# Altium schematic symbol library SparkFun-DigitalIC.SCHLIB: 190 symbols (part 1 of 2)
Pins are listed as number, name and electrical type; pins without a type are passive.

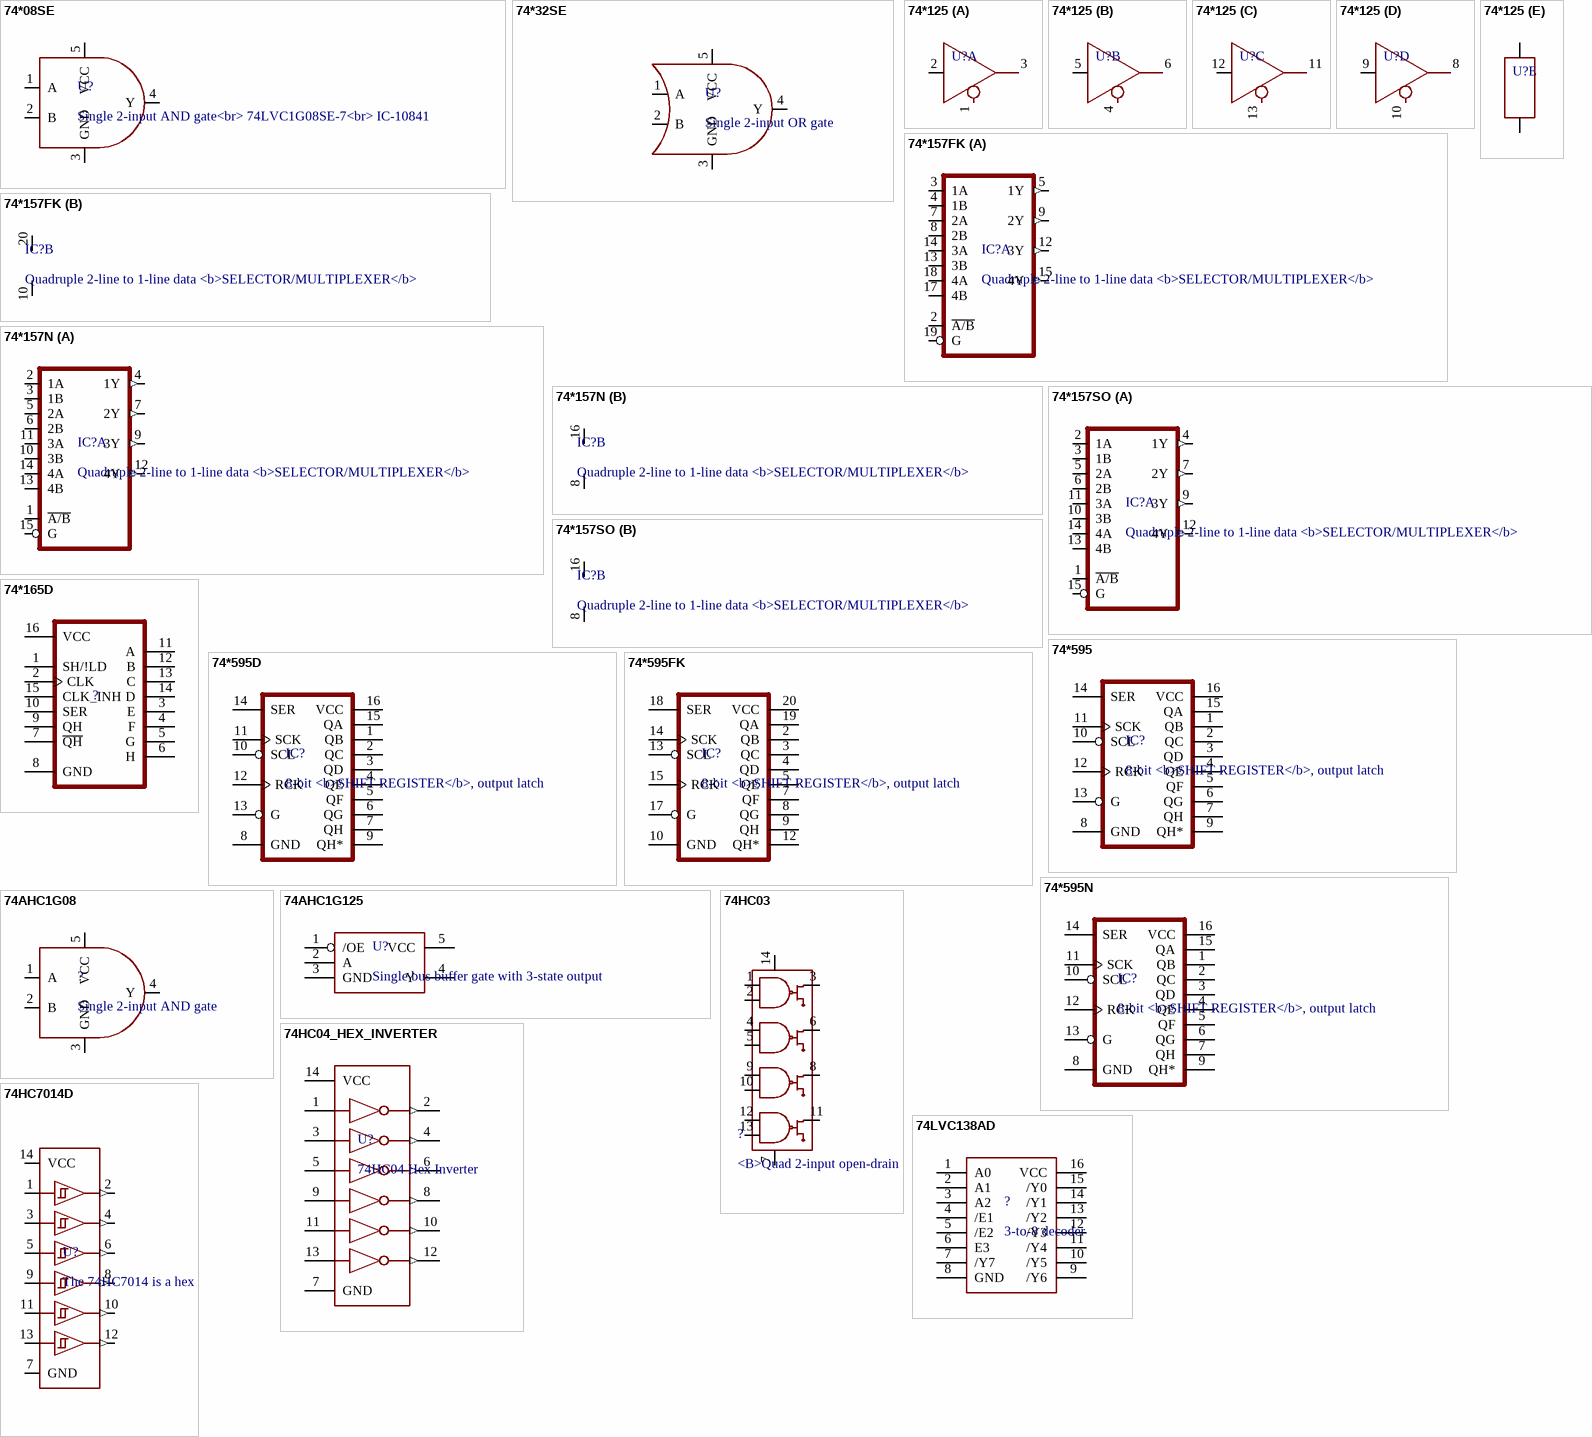
[diagram p0: symbols 74*08SE to 74LVC138AD]

## 74*08SE
designator U?, comment Single 2-input AND gate<br> / 74LVC1G08SE-7<br> / IC-10841
PROD_ID: IC-10841
footprint SOT353
pins: 1 A, 2 B, 3 GND, 4 Y, 5 VCC

## 74*32SE
designator U?, comment Single 2-input OR gate
PROD_ID: IC-10842
footprint SOT353
pins: 1 A, 2 B, 3 GND, 4 Y, 5 VCC

## 74*125
designator U?
PROD_ID: IC-08880
footprint SO14
part A pins: 1 ~{EN}, 2 D, 3 Q
part B pins: 4 ~{EN}, 5 D, 6 Q
part C pins: 11 Q, 12 D, 13 ~{EN}
part D pins: 8 Q, 9 D, 10 ~{EN}
part E pins: 7 P$V-, 14 P$V+

## 74*157FK
designator IC?, comment Quadruple 2-line to 1-line data <b>SELECTOR/MULTIPLEXER</b>
footprint LCC20
part A pins: 2 ~{A/B}, 3 1A, 4 1B, 5 1Y (out), 7 2A, 8 2B, 9 2Y (out), 12 3Y (out), 13 3B, 14 3A, 15 4Y (out), 17 4B, 18 4A, 19 G
part B pins: 10 GND (power), 20 VCC (power)

## 74*157N
designator IC?, comment Quadruple 2-line to 1-line data <b>SELECTOR/MULTIPLEXER</b>
footprint DIL16
part A pins: 1 ~{A/B}, 2 1A, 3 1B, 4 1Y (out), 5 2A, 6 2B, 7 2Y (out), 9 3Y (out), 10 3B, 11 3A, 12 4Y (out), 13 4B, 14 4A, 15 G
part B pins: 8 GND (power), 16 VCC (power)

## 74*157SO
designator IC?, comment Quadruple 2-line to 1-line data <b>SELECTOR/MULTIPLEXER</b>
footprint SO016
part A pins: 1 ~{A/B}, 2 1A, 3 1B, 4 1Y (out), 5 2A, 6 2B, 7 2Y (out), 9 3Y (out), 10 3B, 11 3A, 12 4Y (out), 13 4B, 14 4A, 15 G
part B pins: 8 GND (power), 16 VCC (power)

## 74*165D
designator ?
footprint SO16
pins: 1 SH/!LD, 2 CLK, 3 E (hiz), 4 F (hiz), 5 G (hiz), 6 H (hiz), 7 ~{QH}, 8 GND (power), 9 QH (hiz), 10 SER, 11 A (hiz), 12 B (hiz), 13 C (hiz), 14 D (hiz), 15 CLK_INH, 16 VCC (power)

## 74*595
designator IC?, comment 8-bit <b>SHIFT REGISTER</b>, output latch
footprint TSSOP16
pins: 1 QB (hiz), 2 QC (hiz), 3 QD (hiz), 4 QE (hiz), 5 QF (hiz), 6 QG (hiz), 7 QH (hiz), 8 GND (power), 9 QH* (hiz), 10 SCL, 11 SCK, 12 RCK, 13 G, 14 SER, 15 QA (hiz), 16 VCC (power)

## 74*595D
designator IC?, comment 8-bit <b>SHIFT REGISTER</b>, output latch
PROD_ID: IC-07875
footprint SO16
pins: 1 QB (hiz), 2 QC (hiz), 3 QD (hiz), 4 QE (hiz), 5 QF (hiz), 6 QG (hiz), 7 QH (hiz), 8 GND (power), 9 QH* (hiz), 10 SCL, 11 SCK, 12 RCK, 13 G, 14 SER, 15 QA (hiz), 16 VCC (power)

## 74*595FK
designator IC?, comment 8-bit <b>SHIFT REGISTER</b>, output latch
footprint LCC20
pins: 2 QB (hiz), 3 QC (hiz), 4 QD (hiz), 5 QE (hiz), 7 QF (hiz), 8 QG (hiz), 9 QH (hiz), 10 GND (power), 12 QH* (hiz), 13 SCL, 14 SCK, 15 RCK, 17 G, 18 SER, 19 QA (hiz), 20 VCC (power)

## 74*595N
designator IC?, comment 8-bit <b>SHIFT REGISTER</b>, output latch
footprint DIL16
pins: 1 QB (hiz), 2 QC (hiz), 3 QD (hiz), 4 QE (hiz), 5 QF (hiz), 6 QG (hiz), 7 QH (hiz), 8 GND (power), 9 QH* (hiz), 10 SCL, 11 SCK, 12 RCK, 13 G, 14 SER, 15 QA (hiz), 16 VCC (power)

## 74AHC1G08
designator ?, comment Single 2-input AND gate
PROD_ID: IC-10841
footprint SOT353
pins: 1 A, 2 B, 3 GND, 4 Y, 5 VCC

## 74AHC1G125
designator U?, comment Single bus buffer gate with 3-state output
PROD_ID: IC-11920
footprint SOT23-5
pins: 1 /OE, 2 A, 3 GND, 4 Y, 5 VCC

## 74HC03
designator ?, comment <B>Quad 2-input open-drain NAND</B><br> / 2-5V operating voltage<br> / Some part numbers may include a clamping diode from OD output to VCC; check datasheet for specific part.<br> / We use an NXP part which does NOT have a clamping diode.
footprint TSSOP14
pins: 1 A1, 2 B1, 3 Y1, 4 A2, 5 B2, 6 Y2, 7 VSS, 8 Y3, 9 A3, 10 B3, 11 Y4, 12 A4, 13 B4, 14 VCC

## 74HC04_HEX_INVERTER
designator U?, comment 74HC04 Hex Inverter
footprint DIL14
pins: 1 1A, 2 1Y (out), 3 2A, 4 2Y (out), 5 3A, 6 3Y (out), 7 GND (power), 8 4Y (out), 9 4A, 10 5Y (out), 11 5A, 12 6Y (out), 13 6A, 14 VCC (power)

## 74HC7014D
designator U?, comment The 74HC7014 is a hex buffer with precision Schmitt-trigger inputs. / The precisely defined / trigger levels are lying in a window between (0.55 x VCC) and (0.65 x VCC). It makes the / circuit suitable to operate in a highly noisy environment. Input shorts are allowed to -1.5 V / and +16 V without disturbing other channels. Inputs include clamp diodes that enable the / use of current limiting resistors to interface inputs to voltages in excess of VCC. Schmitt / trigger inputs transform slowly changing input signals into sharply defined jitter-free output / signals.
PROD_ID: IC-12527
footprint SOIC-14
pins: 1 1A, 2 1Y (out), 3 2A, 4 2Y (out), 5 3A, 6 3Y (out), 7 GND (power), 8 4Y (out), 9 4A, 10 5Y (out), 11 5A, 12 6Y (out), 13 6A, 14 VCC (power)

## 74LVC138AD
designator ?, comment 3-to-8 decoder
footprint SO016
pins: 1 A0, 2 A1, 3 A2, 4 /E1, 5 /E2, 6 E3, 7 /Y7, 8 GND, 9 /Y6, 10 /Y5, 11 /Y4, 12 /Y3, 13 /Y2, 14 /Y1, 15 /Y0, 16 VCC

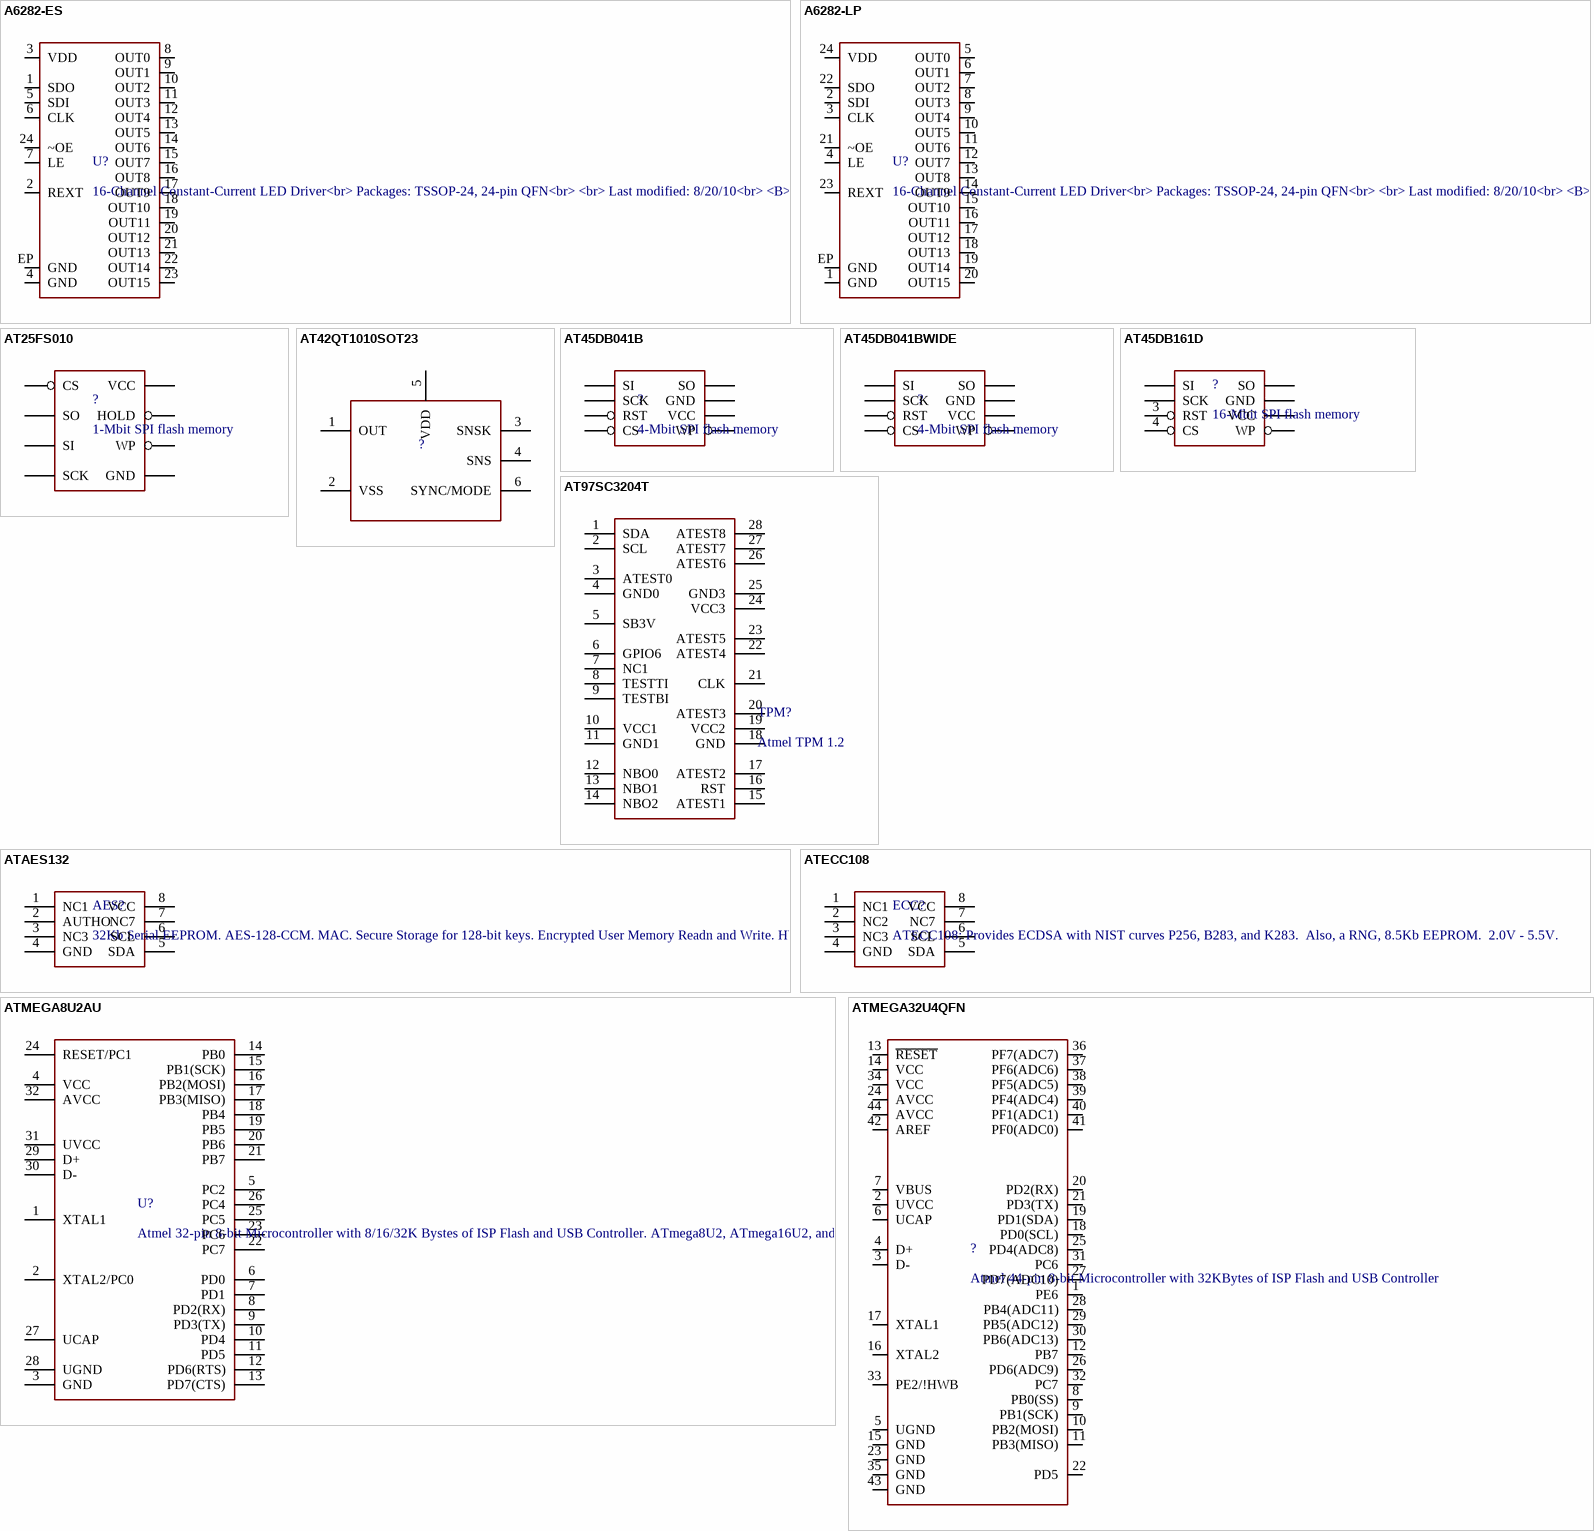
[diagram p1: symbols A6282-ES to ATMEGA32U4QFN]

## A6282-ES
designator U?, comment 16-Channel Constant-Current LED Driver<br> / Packages: TSSOP-24, 24-pin QFN<br> / <br> / Last modified: 8/20/10<br> / <B>Unproven!</b><br>
footprint QFN-24_ALT2
pins: 1 SDO, 2 REXT, 3 VDD, 4 GND, 5 SDI, 6 CLK, 7 LE, 8 OUT0, 9 OUT1, 10 OUT2, 11 OUT3, 12 OUT4, 13 OUT5, 14 OUT6, 15 OUT7, 16 OUT8, 17 OUT9, 18 OUT10, 19 OUT11, 20 OUT12, 21 OUT13, 22 OUT14, 23 OUT15, 24 ~OE, EP GND

## A6282-LP
designator U?, comment 16-Channel Constant-Current LED Driver<br> / Packages: TSSOP-24, 24-pin QFN<br> / <br> / Last modified: 8/20/10<br> / <B>Unproven!</b><br>
footprint TSSOP-24
pins: 1 GND, 2 SDI, 3 CLK, 4 LE, 5 OUT0, 6 OUT1, 7 OUT2, 8 OUT3, 9 OUT4, 10 OUT5, 11 OUT6, 12 OUT7, 13 OUT8, 14 OUT9, 15 OUT10, 16 OUT11, 17 OUT12, 18 OUT13, 19 OUT14, 20 OUT15, 21 ~OE, 22 SDO, 23 REXT, 24 VDD, EP GND

## AT25FS010
designator ?, comment 1-Mbit SPI flash memory
footprint SO08WIDE
pins: 1 CS, 2 SO, 3 WP, 4 GND, 5 SI, 6 SCK, 7 HOLD, 8 VCC

## AT42QT1010SOT23
designator ?
footprint SOT23-6
pins: 1 OUT, 2 VSS, 3 SNSK, 4 SNS, 5 VDD, 6 SYNC/MODE

## AT45DB041B
designator ?, comment 4-Mbit SPI flash memory
footprint SO08
pins: 1 SI, 2 SCK, 3 RST, 4 CS, 5 WP, 6 VCC, 7 GND, 8 SO

## AT45DB041BWIDE
designator ?, comment 4-Mbit SPI flash memory
footprint SO08WIDE
pins: 1 SI, 2 SCK, 3 RST, 4 CS, 5 WP, 6 VCC, 7 GND, 8 SO

## AT45DB161D
designator ?, comment 16-Mbit SPI flash memory
footprint SO08-EIAJ
pins: 1 SI, 2 SCK, 3 RST, 4 CS, 5 WP, 6 VCC, 7 GND, 8 SO

## AT97SC3204T
designator TPM?, comment Atmel TPM 1.2
PROD_ID: IC-11984
footprint TSSOP28
pins: 1 SDA, 2 SCL, 3 ATEST0 (power), 4 GND0 (power), 5 SB3V (power), 6 GPIO6, 7 NC1, 8 TESTTI (power), 9 TESTBI (power), 10 VCC1 (power), 11 GND1 (power), 12 NBO0, 13 NBO1, 14 NBO2, 15 ATEST1 (power), 16 RST, 17 ATEST2 (power), 18 GND (power), 19 VCC2 (power), 20 ATEST3 (power), 21 CLK, 22 ATEST4 (power), 23 ATEST5 (power), 24 VCC3 (power), 25 GND3 (power), 26 ATEST6 (power), 27 ATEST7 (power), 28 ATEST8 (power)

## ATAES132
designator AES?, comment 32Kb Serial EEPROM. / AES-128-CCM. / MAC. / Secure Storage for 128-bit keys. / Encrypted User Memory Readn and Write. / HWRNG. / 2.5V to 5.5V.
PROD_ID: IC-11983
footprint SOIC8
pins: 1 NC1, 2 AUTHO, 3 NC3, 4 GND (power), 5 SDA, 6 SCL, 7 NC7, 8 VCC (power)

## ATECC108
designator ECC?, comment ATECC108: Provides ECDSA with NIST curves P256, B283, and K283.  Also, a RNG, 8.5Kb EEPROM.  2.0V - 5.5V.
PROD_ID: IC-11982
footprint SOIC8
pins: 1 NC1, 2 NC2, 3 NC3, 4 GND (power), 5 SDA, 6 SCL, 7 NC7, 8 VCC (power)

## ATMEGA8U2AU
designator U?, comment Atmel 32-pin 8-bit Microcontroller with 8/16/32K Bystes of ISP Flash and USB Controller. ATmega8U2, ATmega16U2, and ATmega32U2
footprint TQFP32-08
pins: 1 XTAL1, 2 XTAL2/PC0, 3 GND, 4 VCC, 5 PC2, 6 PD0, 7 PD1, 8 PD2(RX), 9 PD3(TX), 10 PD4, 11 PD5, 12 PD6(RTS), 13 PD7(CTS), 14 PB0, 15 PB1(SCK), 16 PB2(MOSI), 17 PB3(MISO), 18 PB4, 19 PB5, 20 PB6, 21 PB7, 22 PC7, 23 PC6, 24 RESET/PC1, 25 PC5, 26 PC4, 27 UCAP, 28 UGND, 29 D+, 30 D-, 31 UVCC, 32 AVCC

## ATMEGA32U4QFN
designator ?, comment Atmel 44-pin 8-bit Microcontroller with 32KBytes of ISP Flash and USB Controller
footprint QFN-44
pins: 1 PE6, 2 UVCC, 3 D-, 4 D+, 5 UGND, 6 UCAP, 7 VBUS, 8 PB0(SS), 9 PB1(SCK), 10 PB2(MOSI), 11 PB3(MISO), 12 PB7, 13 ~{RESET}, 14 VCC, 15 GND, 16 XTAL2, 17 XTAL1, 18 PD0(SCL), 19 PD1(SDA), 20 PD2(RX), 21 PD3(TX), 22 PD5, 23 GND, 24 AVCC, 25 PD4(ADC8), 26 PD6(ADC9), 27 PD7(ADC10), 28 PB4(ADC11), 29 PB5(ADC12), 30 PB6(ADC13), 31 PC6, 32 PC7, 33 PE2/!HWB, 34 VCC, 35 GND, 36 PF7(ADC7), 37 PF6(ADC6), 38 PF5(ADC5), 39 PF4(ADC4), 40 PF1(ADC1), 41 PF0(ADC0), 42 AREF, 43 GND, 44 AVCC

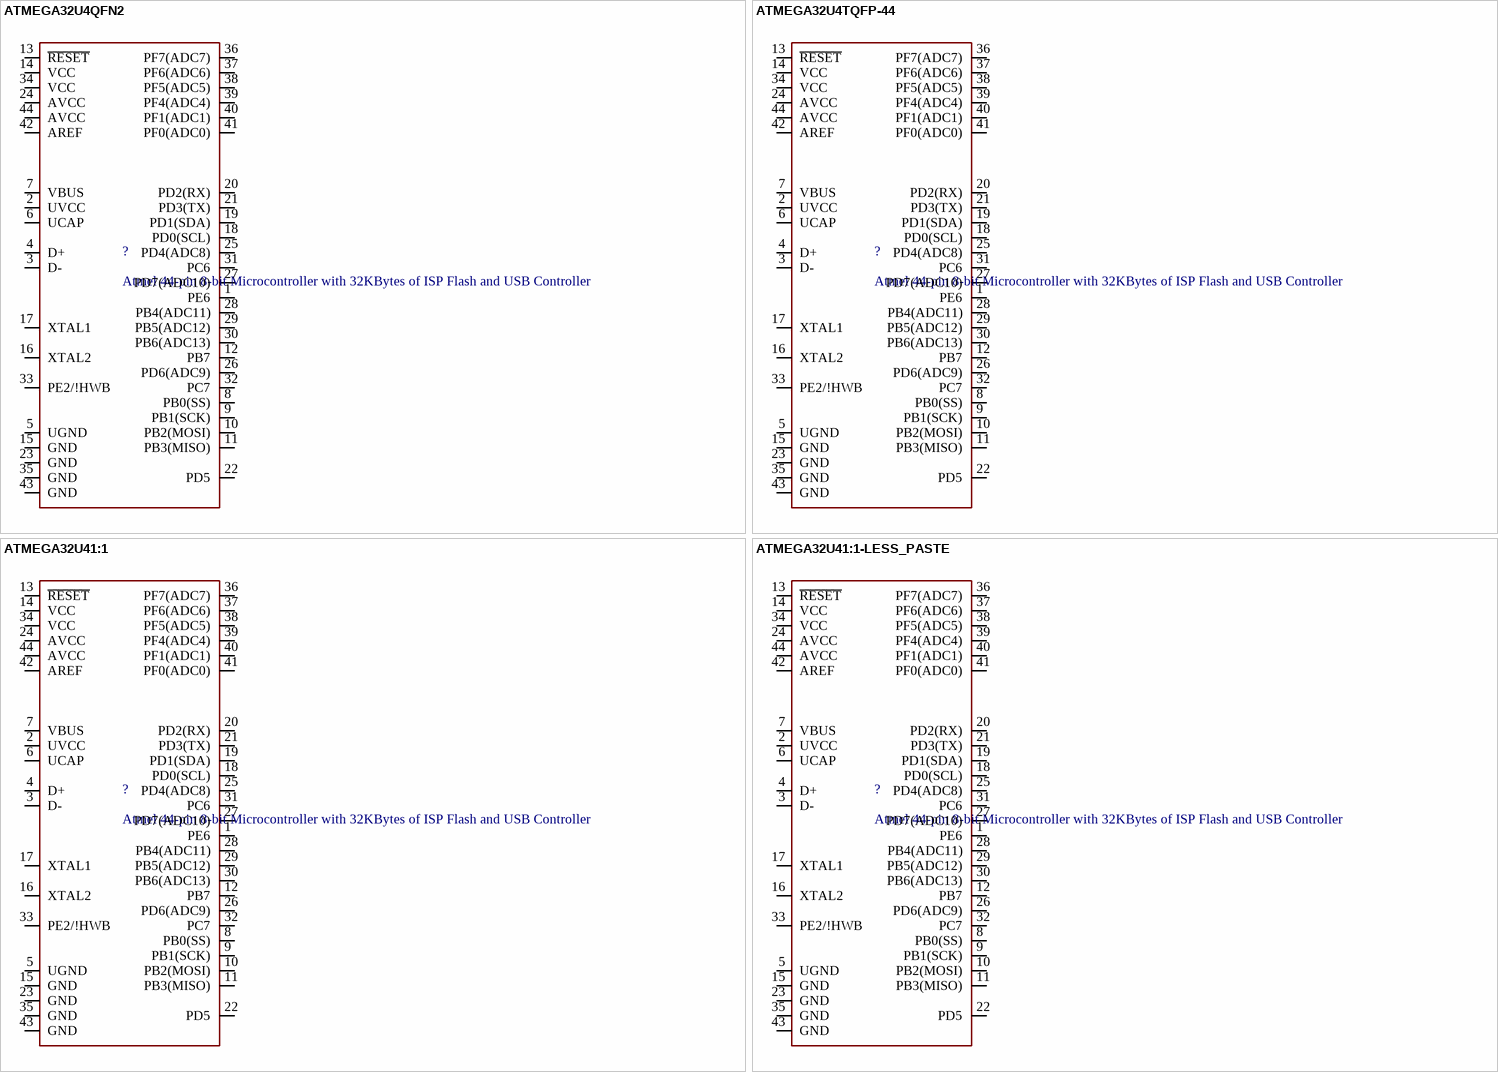
[diagram p2: symbols ATMEGA32U4QFN2 to ATMEGA32U41:1-LESS_PASTE]

## ATMEGA32U4QFN2
designator ?, comment Atmel 44-pin 8-bit Microcontroller with 32KBytes of ISP Flash and USB Controller
footprint QFN-44-NOPAD
pins: 1 PE6, 2 UVCC, 3 D-, 4 D+, 5 UGND, 6 UCAP, 7 VBUS, 8 PB0(SS), 9 PB1(SCK), 10 PB2(MOSI), 11 PB3(MISO), 12 PB7, 13 ~{RESET}, 14 VCC, 15 GND, 16 XTAL2, 17 XTAL1, 18 PD0(SCL), 19 PD1(SDA), 20 PD2(RX), 21 PD3(TX), 22 PD5, 23 GND, 24 AVCC, 25 PD4(ADC8), 26 PD6(ADC9), 27 PD7(ADC10), 28 PB4(ADC11), 29 PB5(ADC12), 30 PB6(ADC13), 31 PC6, 32 PC7, 33 PE2/!HWB, 34 VCC, 35 GND, 36 PF7(ADC7), 37 PF6(ADC6), 38 PF5(ADC5), 39 PF4(ADC4), 40 PF1(ADC1), 41 PF0(ADC0), 42 AREF, 43 GND, 44 AVCC

## ATMEGA32U4TQFP-44
designator ?, comment Atmel 44-pin 8-bit Microcontroller with 32KBytes of ISP Flash and USB Controller
footprint TQFP44
pins: 1 PE6, 2 UVCC, 3 D-, 4 D+, 5 UGND, 6 UCAP, 7 VBUS, 8 PB0(SS), 9 PB1(SCK), 10 PB2(MOSI), 11 PB3(MISO), 12 PB7, 13 ~{RESET}, 14 VCC, 15 GND, 16 XTAL2, 17 XTAL1, 18 PD0(SCL), 19 PD1(SDA), 20 PD2(RX), 21 PD3(TX), 22 PD5, 23 GND, 24 AVCC, 25 PD4(ADC8), 26 PD6(ADC9), 27 PD7(ADC10), 28 PB4(ADC11), 29 PB5(ADC12), 30 PB6(ADC13), 31 PC6, 32 PC7, 33 PE2/!HWB, 34 VCC, 35 GND, 36 PF7(ADC7), 37 PF6(ADC6), 38 PF5(ADC5), 39 PF4(ADC4), 40 PF1(ADC1), 41 PF0(ADC0), 42 AREF, 43 GND, 44 AVCC

## ATMEGA32U41:1
designator ?, comment Atmel 44-pin 8-bit Microcontroller with 32KBytes of ISP Flash and USB Controller
footprint QFN-44-NOPAD_1:1
pins: 1 PE6, 2 UVCC, 3 D-, 4 D+, 5 UGND, 6 UCAP, 7 VBUS, 8 PB0(SS), 9 PB1(SCK), 10 PB2(MOSI), 11 PB3(MISO), 12 PB7, 13 ~{RESET}, 14 VCC, 15 GND, 16 XTAL2, 17 XTAL1, 18 PD0(SCL), 19 PD1(SDA), 20 PD2(RX), 21 PD3(TX), 22 PD5, 23 GND, 24 AVCC, 25 PD4(ADC8), 26 PD6(ADC9), 27 PD7(ADC10), 28 PB4(ADC11), 29 PB5(ADC12), 30 PB6(ADC13), 31 PC6, 32 PC7, 33 PE2/!HWB, 34 VCC, 35 GND, 36 PF7(ADC7), 37 PF6(ADC6), 38 PF5(ADC5), 39 PF4(ADC4), 40 PF1(ADC1), 41 PF0(ADC0), 42 AREF, 43 GND, 44 AVCC

## ATMEGA32U41:1-LESS_PASTE
designator ?, comment Atmel 44-pin 8-bit Microcontroller with 32KBytes of ISP Flash and USB Controller
footprint QFN-44-NOPAD_1:1-LESS_PASTE
pins: 1 PE6, 2 UVCC, 3 D-, 4 D+, 5 UGND, 6 UCAP, 7 VBUS, 8 PB0(SS), 9 PB1(SCK), 10 PB2(MOSI), 11 PB3(MISO), 12 PB7, 13 ~{RESET}, 14 VCC, 15 GND, 16 XTAL2, 17 XTAL1, 18 PD0(SCL), 19 PD1(SDA), 20 PD2(RX), 21 PD3(TX), 22 PD5, 23 GND, 24 AVCC, 25 PD4(ADC8), 26 PD6(ADC9), 27 PD7(ADC10), 28 PB4(ADC11), 29 PB5(ADC12), 30 PB6(ADC13), 31 PC6, 32 PC7, 33 PE2/!HWB, 34 VCC, 35 GND, 36 PF7(ADC7), 37 PF6(ADC6), 38 PF5(ADC5), 39 PF4(ADC4), 40 PF1(ADC1), 41 PF0(ADC0), 42 AREF, 43 GND, 44 AVCC

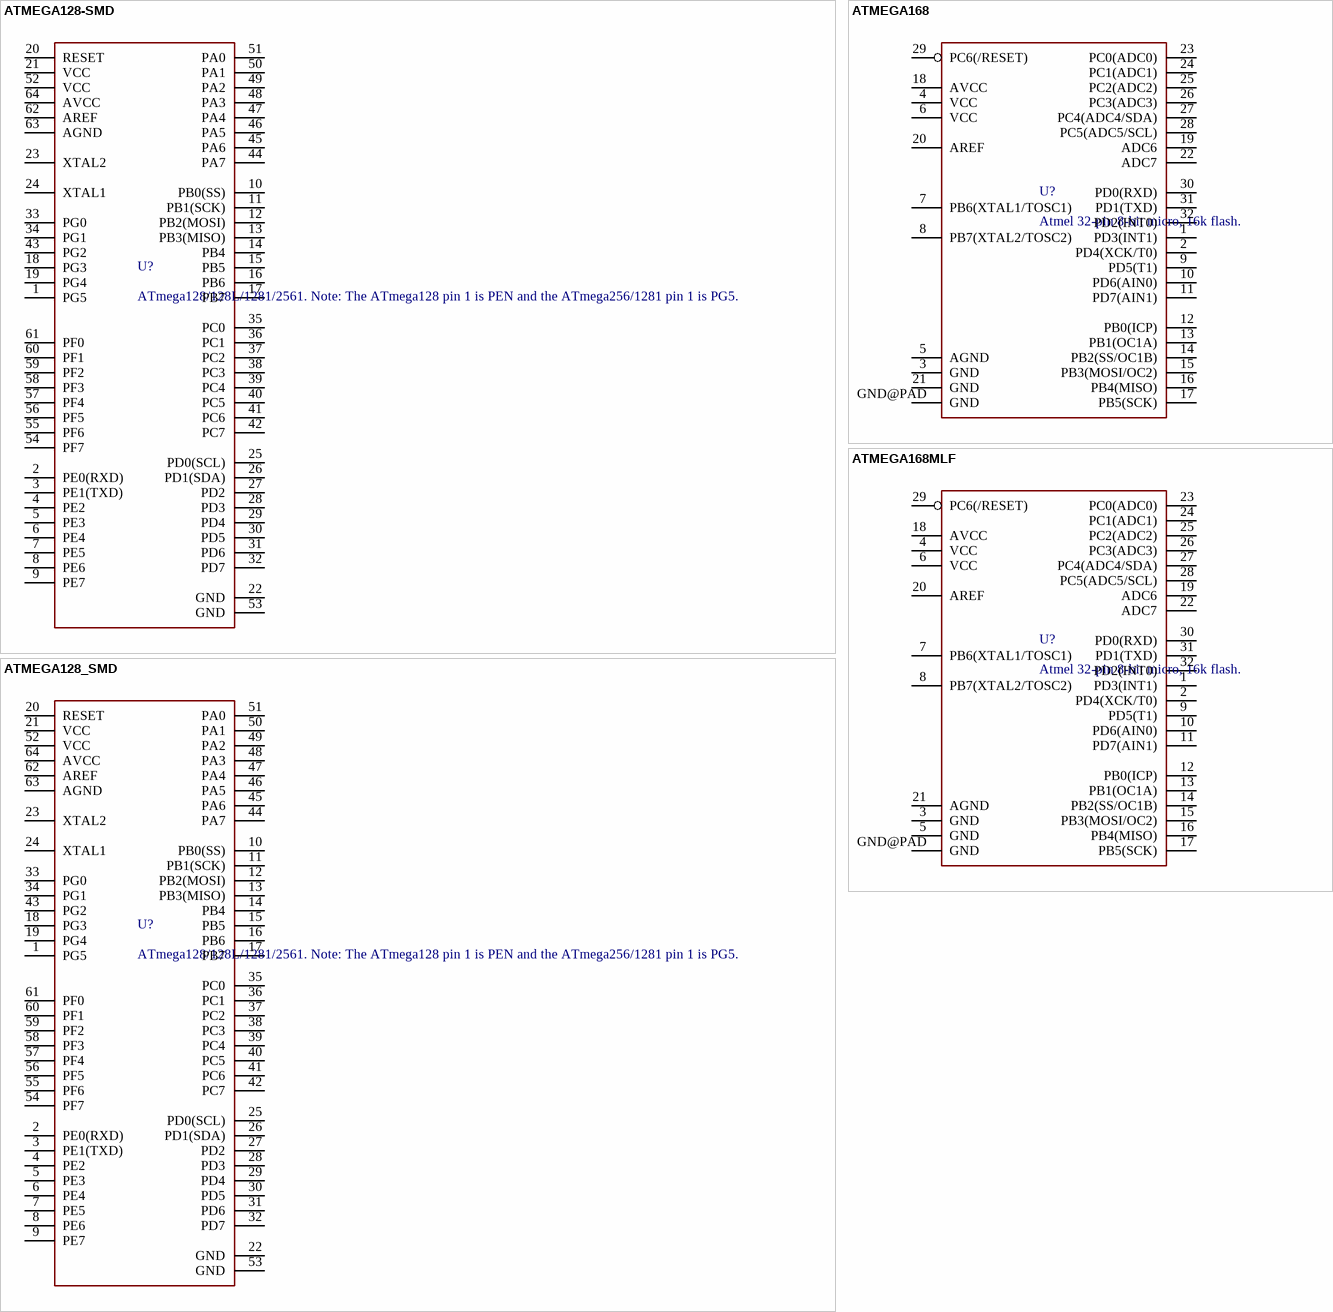
[diagram p3: symbols ATMEGA128-SMD to ATMEGA168MLF]

## ATMEGA128-SMD
designator U?, comment ATmega128/128L/1281/2561. Note: The ATmega128 pin 1 is PEN and the ATmega256/1281 pin 1 is PG5.
footprint TQFP64_14X14MM
pins: 1 PG5, 2 PE0(RXD), 3 PE1(TXD), 4 PE2, 5 PE3, 6 PE4, 7 PE5, 8 PE6, 9 PE7, 10 PB0(SS), 11 PB1(SCK), 12 PB2(MOSI), 13 PB3(MISO), 14 PB4, 15 PB5, 16 PB6, 17 PB7, 18 PG3, 19 PG4, 20 RESET, 21 VCC, 22 GND, 23 XTAL2, 24 XTAL1, 25 PD0(SCL), 26 PD1(SDA), 27 PD2, 28 PD3, 29 PD4, 30 PD5, 31 PD6, 32 PD7, 33 PG0, 34 PG1, 35 PC0, 36 PC1, 37 PC2, 38 PC3, 39 PC4, 40 PC5, 41 PC6, 42 PC7, 43 PG2, 44 PA7, 45 PA6, 46 PA5, 47 PA4, 48 PA3, 49 PA2, 50 PA1, 51 PA0, 52 VCC, 53 GND, 54 PF7, 55 PF6, 56 PF5, 57 PF4, 58 PF3, 59 PF2, 60 PF1, 61 PF0, 62 AREF, 63 AGND, 64 AVCC

## ATMEGA128_SMD
designator U?, comment ATmega128/128L/1281/2561. Note: The ATmega128 pin 1 is PEN and the ATmega256/1281 pin 1 is PG5.
footprint TQFP64
pins: 1 PG5, 2 PE0(RXD), 3 PE1(TXD), 4 PE2, 5 PE3, 6 PE4, 7 PE5, 8 PE6, 9 PE7, 10 PB0(SS), 11 PB1(SCK), 12 PB2(MOSI), 13 PB3(MISO), 14 PB4, 15 PB5, 16 PB6, 17 PB7, 18 PG3, 19 PG4, 20 RESET, 21 VCC, 22 GND, 23 XTAL2, 24 XTAL1, 25 PD0(SCL), 26 PD1(SDA), 27 PD2, 28 PD3, 29 PD4, 30 PD5, 31 PD6, 32 PD7, 33 PG0, 34 PG1, 35 PC0, 36 PC1, 37 PC2, 38 PC3, 39 PC4, 40 PC5, 41 PC6, 42 PC7, 43 PG2, 44 PA7, 45 PA6, 46 PA5, 47 PA4, 48 PA3, 49 PA2, 50 PA1, 51 PA0, 52 VCC, 53 GND, 54 PF7, 55 PF6, 56 PF5, 57 PF4, 58 PF3, 59 PF2, 60 PF1, 61 PF0, 62 AREF, 63 AGND, 64 AVCC

## ATMEGA168
designator U?, comment Atmel 32-pin 8-bit micro, 16k flash.
footprint TQFP32-08
pins: 1 PD3(INT1), 2 PD4(XCK/T0), 3 GND, 4 VCC, 5 AGND, 6 VCC, 7 PB6(XTAL1/TOSC1), 8 PB7(XTAL2/TOSC2), 9 PD5(T1), 10 PD6(AIN0), 11 PD7(AIN1), 12 PB0(ICP), 13 PB1(OC1A), 14 PB2(SS/OC1B), 15 PB3(MOSI/OC2), 16 PB4(MISO), 17 PB5(SCK), 18 AVCC, 19 ADC6, 20 AREF, 21 GND, 22 ADC7, 23 PC0(ADC0), 24 PC1(ADC1), 25 PC2(ADC2), 26 PC3(ADC3), 27 PC4(ADC4/SDA), 28 PC5(ADC5/SCL), 29 PC6(/RESET), 30 PD0(RXD), 31 PD1(TXD), 32 PD2(INT0), GND@PAD GND

## ATMEGA168MLF
designator U?, comment Atmel 32-pin 8-bit micro, 16k flash.
footprint MLF32
pins: 1 PD3(INT1), 2 PD4(XCK/T0), 3 GND, 4 VCC, 5 GND, 6 VCC, 7 PB6(XTAL1/TOSC1), 8 PB7(XTAL2/TOSC2), 9 PD5(T1), 10 PD6(AIN0), 11 PD7(AIN1), 12 PB0(ICP), 13 PB1(OC1A), 14 PB2(SS/OC1B), 15 PB3(MOSI/OC2), 16 PB4(MISO), 17 PB5(SCK), 18 AVCC, 19 ADC6, 20 AREF, 21 AGND, 22 ADC7, 23 PC0(ADC0), 24 PC1(ADC1), 25 PC2(ADC2), 26 PC3(ADC3), 27 PC4(ADC4/SDA), 28 PC5(ADC5/SCL), 29 PC6(/RESET), 30 PD0(RXD), 31 PD1(TXD), 32 PD2(INT0), GND@PAD GND

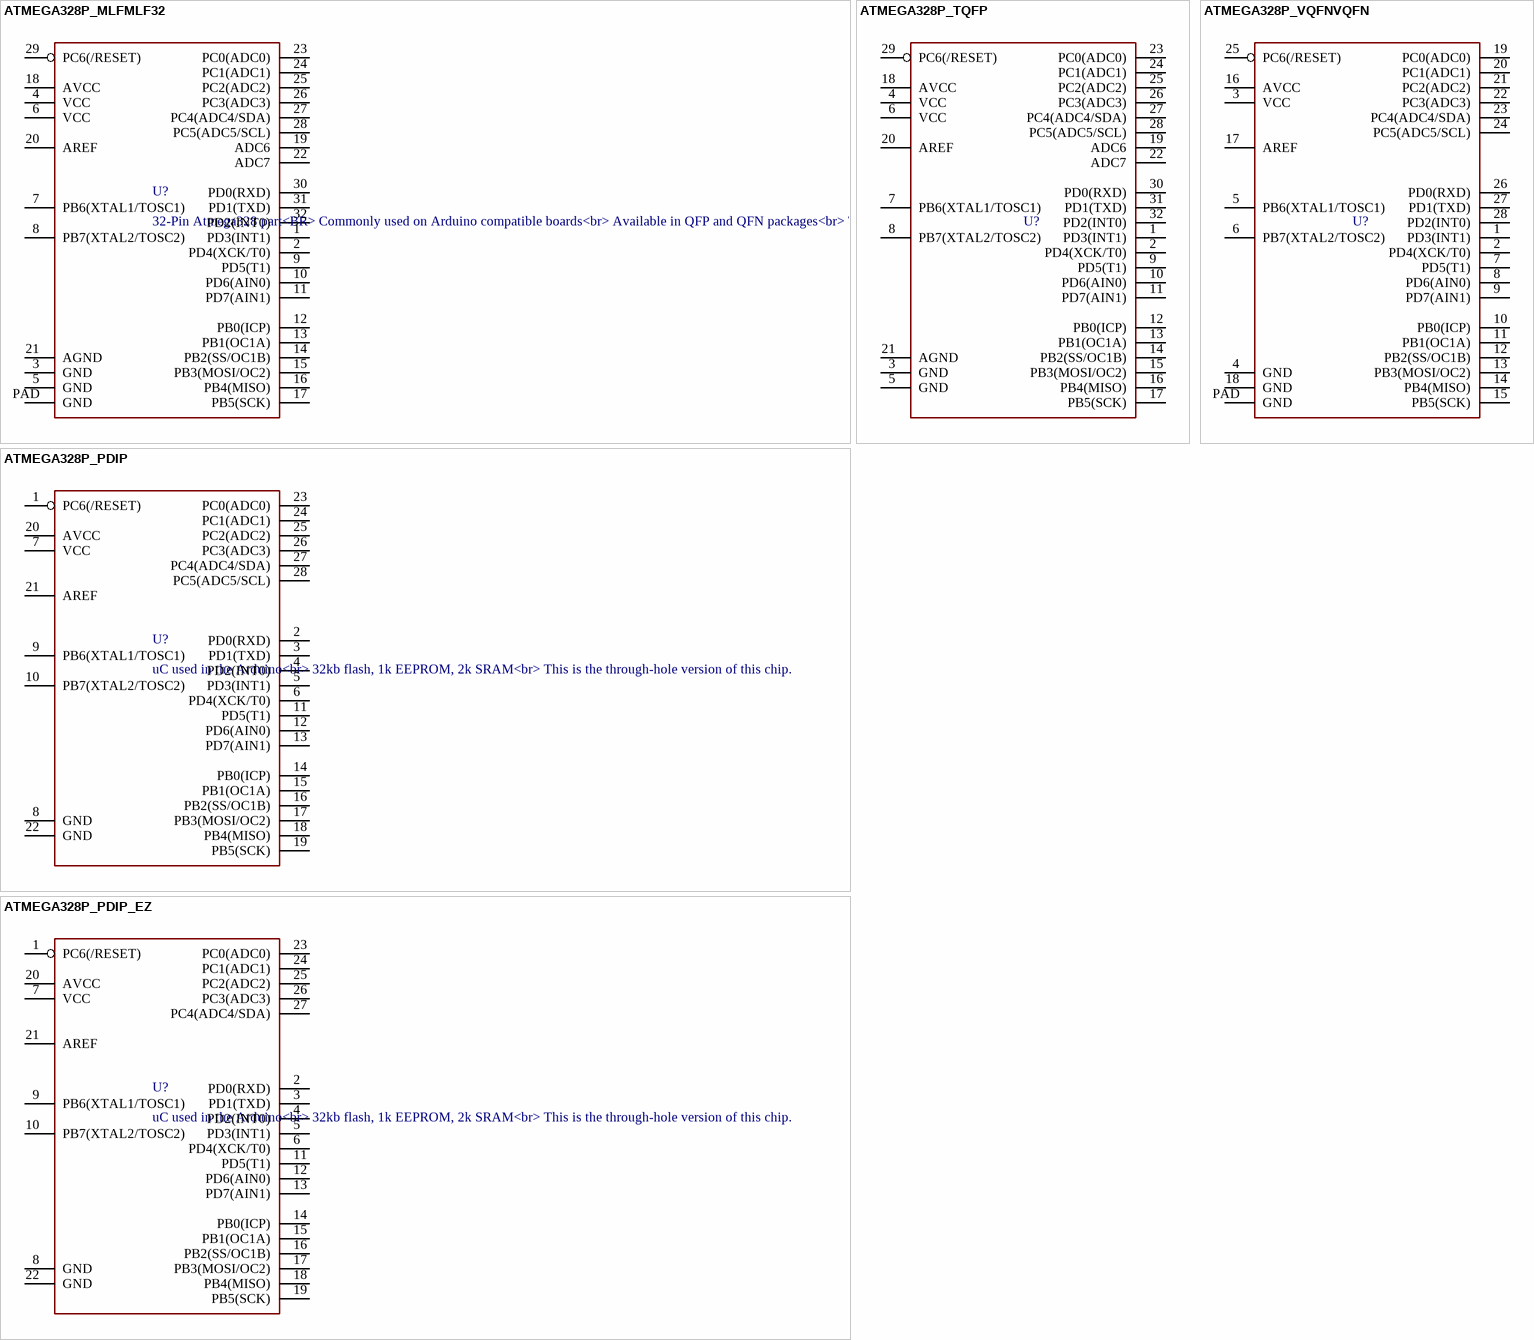
[diagram p4: symbols ATMEGA328P_MLFMLF32 to ATMEGA328P_VQFNVQFN]

## ATMEGA328P_MLFMLF32
designator U?, comment 32-Pin Atmega328 part<BR> / Commonly used on Arduino compatible boards<br> / Available in QFP and QFN packages<br> / TQFP is IC-09069 / QFN is non-stock
footprint MLF32-PAD
pins: 1 PD3(INT1), 2 PD4(XCK/T0), 3 GND, 4 VCC, 5 GND, 6 VCC, 7 PB6(XTAL1/TOSC1), 8 PB7(XTAL2/TOSC2), 9 PD5(T1), 10 PD6(AIN0), 11 PD7(AIN1), 12 PB0(ICP), 13 PB1(OC1A), 14 PB2(SS/OC1B), 15 PB3(MOSI/OC2), 16 PB4(MISO), 17 PB5(SCK), 18 AVCC, 19 ADC6, 20 AREF, 21 AGND, 22 ADC7, 23 PC0(ADC0), 24 PC1(ADC1), 25 PC2(ADC2), 26 PC3(ADC3), 27 PC4(ADC4/SDA), 28 PC5(ADC5/SCL), 29 PC6(/RESET), 30 PD0(RXD), 31 PD1(TXD), 32 PD2(INT0), PAD GND

## ATMEGA328P_PDIP
designator U?, comment uC used in the Arduino<br> / 32kb flash, 1k EEPROM, 2k SRAM<br> / This is the through-hole version of this chip.
footprint DIL28-3
pins: 1 PC6(/RESET), 2 PD0(RXD), 3 PD1(TXD), 4 PD2(INT0), 5 PD3(INT1), 6 PD4(XCK/T0), 7 VCC, 8 GND, 9 PB6(XTAL1/TOSC1), 10 PB7(XTAL2/TOSC2), 11 PD5(T1), 12 PD6(AIN0), 13 PD7(AIN1), 14 PB0(ICP), 15 PB1(OC1A), 16 PB2(SS/OC1B), 17 PB3(MOSI/OC2), 18 PB4(MISO), 19 PB5(SCK), 20 AVCC, 21 AREF, 22 GND, 23 PC0(ADC0), 24 PC1(ADC1), 25 PC2(ADC2), 26 PC3(ADC3), 27 PC4(ADC4/SDA), 28 PC5(ADC5/SCL)

## ATMEGA328P_PDIP_EZ
designator U?, comment uC used in the Arduino<br> / 32kb flash, 1k EEPROM, 2k SRAM<br> / This is the through-hole version of this chip.
footprint DIL28-EZ
pins: 1 PC6(/RESET), 2 PD0(RXD), 3 PD1(TXD), 4 PD2(INT0), 5 PD3(INT1), 6 PD4(XCK/T0), 7 VCC, 8 GND, 9 PB6(XTAL1/TOSC1), 10 PB7(XTAL2/TOSC2), 11 PD5(T1), 12 PD6(AIN0), 13 PD7(AIN1), 14 PB0(ICP), 15 PB1(OC1A), 16 PB2(SS/OC1B), 17 PB3(MOSI/OC2), 18 PB4(MISO), 19 PB5(SCK), 20 AVCC, 21 AREF, 22 GND, 23 PC0(ADC0), 24 PC1(ADC1), 25 PC2(ADC2), 26 PC3(ADC3), 27 PC4(ADC4/SDA)

## ATMEGA328P_TQFP
designator U?
PROD_ID: IC-09069
footprint TQFP32-08
pins: 1 PD3(INT1), 2 PD4(XCK/T0), 3 GND, 4 VCC, 5 GND, 6 VCC, 7 PB6(XTAL1/TOSC1), 8 PB7(XTAL2/TOSC2), 9 PD5(T1), 10 PD6(AIN0), 11 PD7(AIN1), 12 PB0(ICP), 13 PB1(OC1A), 14 PB2(SS/OC1B), 15 PB3(MOSI/OC2), 16 PB4(MISO), 17 PB5(SCK), 18 AVCC, 19 ADC6, 20 AREF, 21 AGND, 22 ADC7, 23 PC0(ADC0), 24 PC1(ADC1), 25 PC2(ADC2), 26 PC3(ADC3), 27 PC4(ADC4/SDA), 28 PC5(ADC5/SCL), 29 PC6(/RESET), 30 PD0(RXD), 31 PD1(TXD), 32 PD2(INT0)

## ATMEGA328P_VQFNVQFN
designator U?
footprint VQFN-28
pins: 1 PD3(INT1), 2 PD4(XCK/T0), 3 VCC, 4 GND, 5 PB6(XTAL1/TOSC1), 6 PB7(XTAL2/TOSC2), 7 PD5(T1), 8 PD6(AIN0), 9 PD7(AIN1), 10 PB0(ICP), 11 PB1(OC1A), 12 PB2(SS/OC1B), 13 PB3(MOSI/OC2), 14 PB4(MISO), 15 PB5(SCK), 16 AVCC, 17 AREF, 18 GND, 19 PC0(ADC0), 20 PC1(ADC1), 21 PC2(ADC2), 22 PC3(ADC3), 23 PC4(ADC4/SDA), 24 PC5(ADC5/SCL), 25 PC6(/RESET), 26 PD0(RXD), 27 PD1(TXD), 28 PD2(INT0), PAD GND

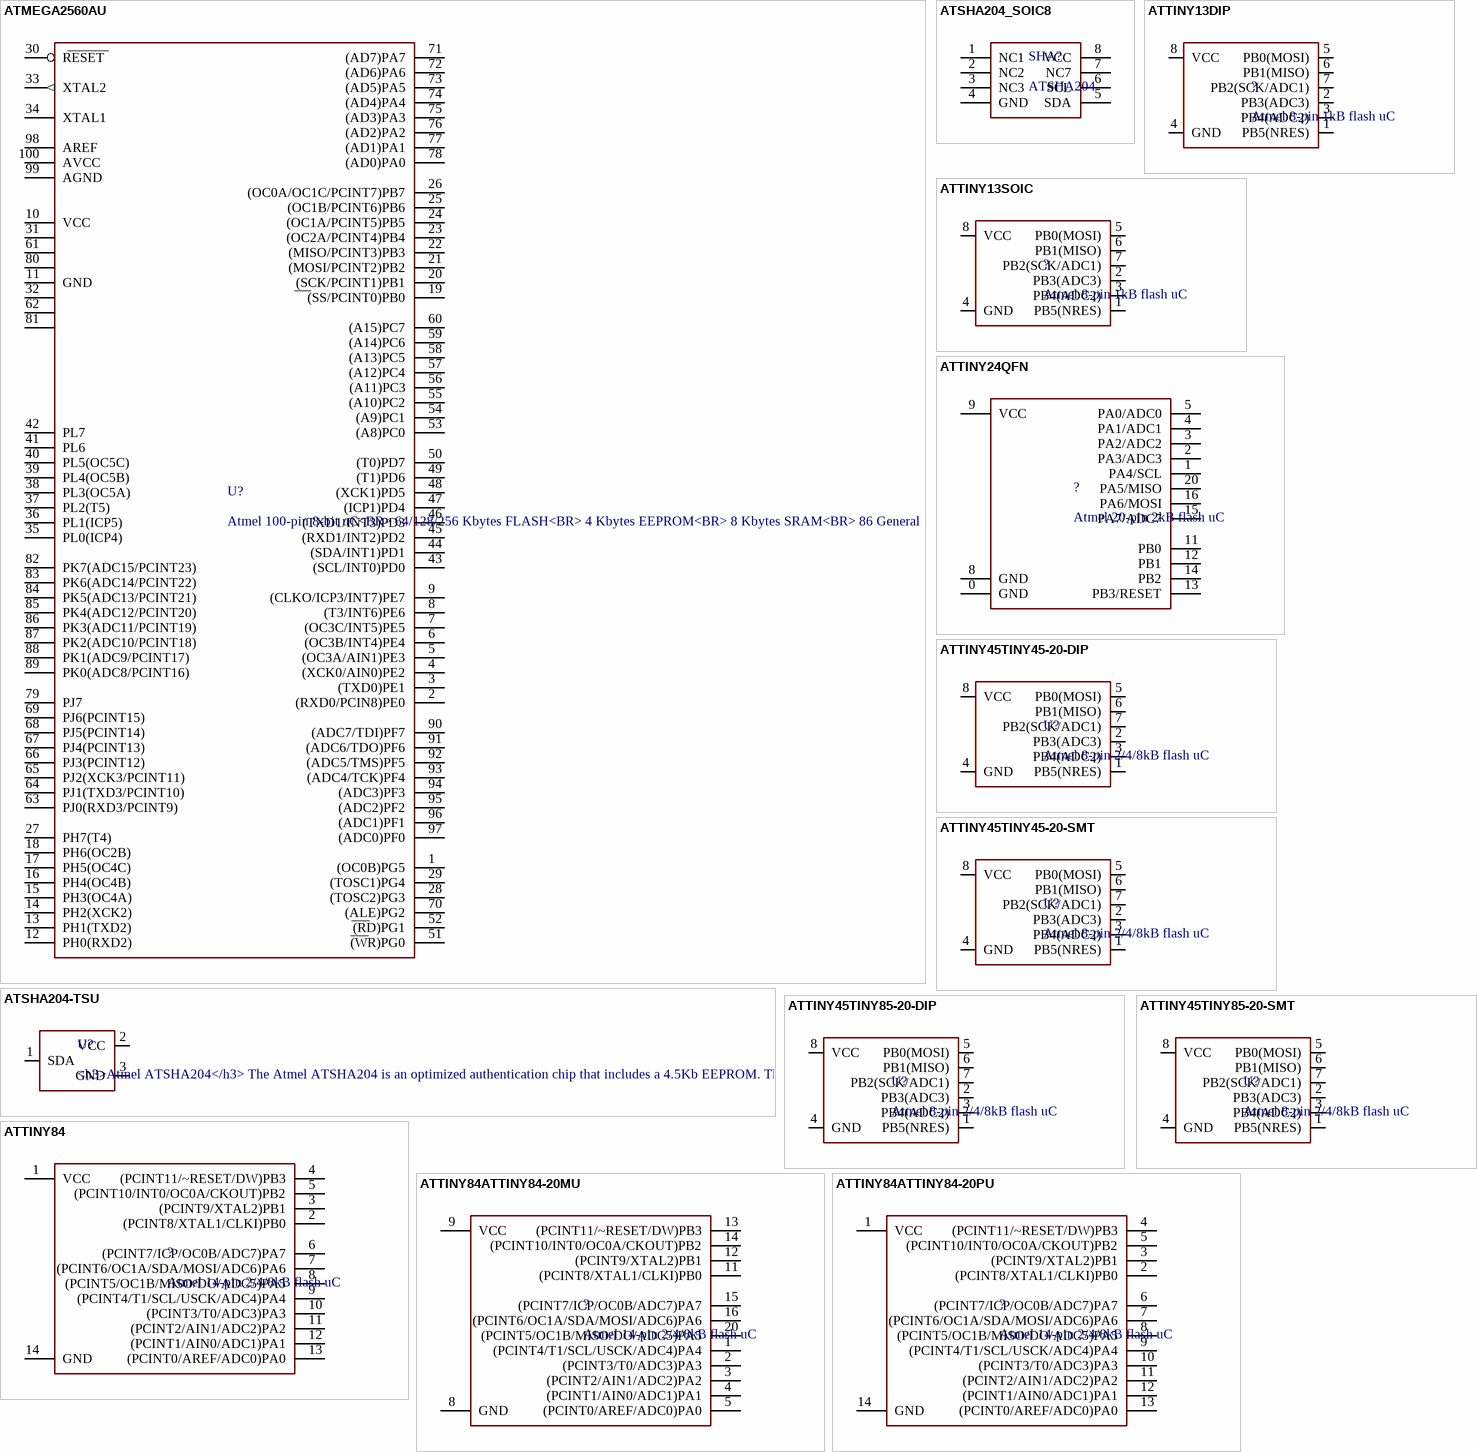
[diagram p5: symbols ATMEGA2560AU to ATTINY84ATTINY84-20PU]

## ATMEGA2560AU
designator U?, comment Atmel 100-pin 8-bit uC<BR> / 64/128/256 Kbytes FLASH<BR> / 4 Kbytes EEPROM<BR> / 8 Kbytes SRAM<BR> / 86 General Purpose I/O pins<BR> / 12-channels16-bit PWM<BR> / 4 x Serial USARTs<BR> / 16-channels 10-bit A/D<BR>
footprint TQFP100
pins: 1 (OC0B)PG5, 2 (RXD0/PCIN8)PE0, 3 (TXD0)PE1, 4 (XCK0/AIN0)PE2, 5 (OC3A/AIN1)PE3, 6 (OC3B/INT4)PE4, 7 (OC3C/INT5)PE5, 8 (T3/INT6)PE6, 9 (CLKO/ICP3/INT7)PE7, 10 VCC (power), 11 GND (power), 12 PH0(RXD2), 13 PH1(TXD2), 14 PH2(XCK2), 15 PH3(OC4A), 16 PH4(OC4B), 17 PH5(OC4C), 18 PH6(OC2B), 19 (SS/PCINT0)PB0, 20 (SCK/PCINT1)PB1, 21 (MOSI/PCINT2)PB2, 22 (MISO/PCINT3)PB3, 23 (OC2A/PCINT4)PB4, 24 (OC1A/PCINT5)PB5, 25 (OC1B/PCINT6)PB6, 26 (OC0A/OC1C/PCINT7)PB7, 27 PH7(T4), 28 (TOSC2)PG3, 29 (TOSC1)PG4, 30 RESET, 31 VCC1 (power), 32 GND1 (power), 33 XTAL2 (out), 34 XTAL1, 35 PL0(ICP4), 36 PL1(ICP5), 37 PL2(T5), 38 PL3(OC5A), 39 PL4(OC5B), 40 PL5(OC5C), 41 PL6, 42 PL7, 43 (SCL/INT0)PD0, 44 (SDA/INT1)PD1, 45 (RXD1/INT2)PD2, 46 (TXD1/INT3)PD3, 47 (ICP1)PD4, 48 (XCK1)PD5, 49 (T1)PD6, 50 (T0)PD7, 51 (WR)PG0, 52 (RD)PG1, 53 (A8)PC0, 54 (A9)PC1, 55 (A10)PC2, 56 (A11)PC3, 57 (A12)PC4, 58 (A13)PC5, 59 (A14)PC6, 60 (A15)PC7, 61 VCC2 (power), 62 GND2 (power), 63 PJ0(RXD3/PCINT9), 64 PJ1(TXD3/PCINT10), 65 PJ2(XCK3/PCINT11), 66 PJ3(PCINT12), 67 PJ4(PCINT13), 68 PJ5(PCINT14), 69 PJ6(PCINT15), 70 (ALE)PG2, 71 (AD7)PA7, 72 (AD6)PA6, 73 (AD5)PA5, 74 (AD4)PA4, 75 (AD3)PA3, 76 (AD2)PA2, 77 (AD1)PA1, 78 (AD0)PA0, 79 PJ7, 80 VCC3 (power), 81 GND3 (power), 82 PK7(ADC15/PCINT23), 83 PK6(ADC14/PCINT22), 84 PK5(ADC13/PCINT21), 85 PK4(ADC12/PCINT20), 86 PK3(ADC11/PCINT19), 87 PK2(ADC10/PCINT18), 88 PK1(ADC9/PCINT17), 89 PK0(ADC8/PCINT16), 90 (ADC7/TDI)PF7, 91 (ADC6/TDO)PF6, 92 (ADC5/TMS)PF5, 93 (ADC4/TCK)PF4, 94 (ADC3)PF3, 95 (ADC2)PF2, 96 (ADC1)PF1, 97 (ADC0)PF0, 98 AREF, 99 AGND (power), 100 AVCC (power)

## ATSHA204-TSU
designator U?, comment <h3>Atmel ATSHA204</h3> / The Atmel ATSHA204 is an optimized authentication chip that includes a 4.5Kb EEPROM. This array can be used for storage of keys, miscellaneous read/write, read-only, password or secret data, and consumption tracking. Access to the various sections of memory can be restricted in a variety of ways and then the configuration locked to prevent changes.
footprint SOT23-3
pins: 1 SDA, 2 VCC, 3 GND

## ATSHA204_SOIC8
designator SHA?, comment ATSHA204
PROD_ID: IC-11981
footprint SOIC8
pins: 1 NC1, 2 NC2, 3 NC3, 4 GND (power), 5 SDA, 6 SCL, 7 NC7, 8 VCC (power)

## ATTINY13DIP
designator ?, comment Atmel 8-pin 1kB flash uC
footprint DIP08
pins: 1 PB5(NRES), 2 PB3(ADC3), 3 PB4(ADC2), 4 GND, 5 PB0(MOSI), 6 PB1(MISO), 7 PB2(SCK/ADC1), 8 VCC

## ATTINY13SOIC
designator ?, comment Atmel 8-pin 1kB flash uC
footprint SO08
pins: 1 PB5(NRES), 2 PB3(ADC3), 3 PB4(ADC2), 4 GND, 5 PB0(MOSI), 6 PB1(MISO), 7 PB2(SCK/ADC1), 8 VCC

## ATTINY24QFN
designator ?, comment Atmel 20-pin 2kB flash uC
footprint QFN20
pins: 0 GND, 1 PA4/SCL, 2 PA3/ADC3, 3 PA2/ADC2, 4 PA1/ADC1, 5 PA0/ADC0, 8 GND, 9 VCC, 11 PB0, 12 PB1, 13 PB3/RESET, 14 PB2, 15 PA7/ADC7, 16 PA6/MOSI, 20 PA5/MISO

## ATTINY45TINY45-20-DIP
designator U?, comment Atmel 8-pin 2/4/8kB flash uC
PROD_ID: IC-09439
footprint DIP08
pins: 1 PB5(NRES), 2 PB3(ADC3), 3 PB4(ADC2), 4 GND, 5 PB0(MOSI), 6 PB1(MISO), 7 PB2(SCK/ADC1), 8 VCC

## ATTINY45TINY45-20-SMT
designator U?, comment Atmel 8-pin 2/4/8kB flash uC
PROD_ID: IC-08922
footprint SO08-EIAJ
pins: 1 PB5(NRES), 2 PB3(ADC3), 3 PB4(ADC2), 4 GND, 5 PB0(MOSI), 6 PB1(MISO), 7 PB2(SCK/ADC1), 8 VCC

## ATTINY45TINY85-20-DIP
designator U?, comment Atmel 8-pin 2/4/8kB flash uC
PROD_ID: IC-09445
footprint DIP08
pins: 1 PB5(NRES), 2 PB3(ADC3), 3 PB4(ADC2), 4 GND, 5 PB0(MOSI), 6 PB1(MISO), 7 PB2(SCK/ADC1), 8 VCC

## ATTINY45TINY85-20-SMT
designator U?, comment Atmel 8-pin 2/4/8kB flash uC
PROD_ID: IC-09092
footprint SO08-EIAJ
pins: 1 PB5(NRES), 2 PB3(ADC3), 3 PB4(ADC2), 4 GND, 5 PB0(MOSI), 6 PB1(MISO), 7 PB2(SCK/ADC1), 8 VCC

## ATTINY84
designator ?, comment Atmel 14-pin 2/4/8kB flash uC
PROD_ID: IC-11285
footprint SO14
pins: 1 VCC, 2 (PCINT8/XTAL1/CLKI)PB0, 3 (PCINT9/XTAL2)PB1, 4 (PCINT11/~RESET/DW)PB3, 5 (PCINT10/INT0/OC0A/CKOUT)PB2, 6 (PCINT7/ICP/OC0B/ADC7)PA7, 7 (PCINT6/OC1A/SDA/MOSI/ADC6)PA6, 8 (PCINT5/OC1B/MISO/DO/ADC5)PA5, 9 (PCINT4/T1/SCL/USCK/ADC4)PA4, 10 (PCINT3/T0/ADC3)PA3, 11 (PCINT2/AIN1/ADC2)PA2, 12 (PCINT1/AIN0/ADC1)PA1, 13 (PCINT0/AREF/ADC0)PA0, 14 GND

## ATTINY84ATTINY84-20MU
designator ?, comment Atmel 14-pin 2/4/8kB flash uC
footprint QFN20
pins: 1 (PCINT4/T1/SCL/USCK/ADC4)PA4, 2 (PCINT3/T0/ADC3)PA3, 3 (PCINT2/AIN1/ADC2)PA2, 4 (PCINT1/AIN0/ADC1)PA1, 5 (PCINT0/AREF/ADC0)PA0, 8 GND, 9 VCC, 11 (PCINT8/XTAL1/CLKI)PB0, 12 (PCINT9/XTAL2)PB1, 13 (PCINT11/~RESET/DW)PB3, 14 (PCINT10/INT0/OC0A/CKOUT)PB2, 15 (PCINT7/ICP/OC0B/ADC7)PA7, 16 (PCINT6/OC1A/SDA/MOSI/ADC6)PA6, 20 (PCINT5/OC1B/MISO/DO/ADC5)PA5

## ATTINY84ATTINY84-20PU
designator ?, comment Atmel 14-pin 2/4/8kB flash uC
footprint DIL14
pins: 1 VCC, 2 (PCINT8/XTAL1/CLKI)PB0, 3 (PCINT9/XTAL2)PB1, 4 (PCINT11/~RESET/DW)PB3, 5 (PCINT10/INT0/OC0A/CKOUT)PB2, 6 (PCINT7/ICP/OC0B/ADC7)PA7, 7 (PCINT6/OC1A/SDA/MOSI/ADC6)PA6, 8 (PCINT5/OC1B/MISO/DO/ADC5)PA5, 9 (PCINT4/T1/SCL/USCK/ADC4)PA4, 10 (PCINT3/T0/ADC3)PA3, 11 (PCINT2/AIN1/ADC2)PA2, 12 (PCINT1/AIN0/ADC1)PA1, 13 (PCINT0/AREF/ADC0)PA0, 14 GND

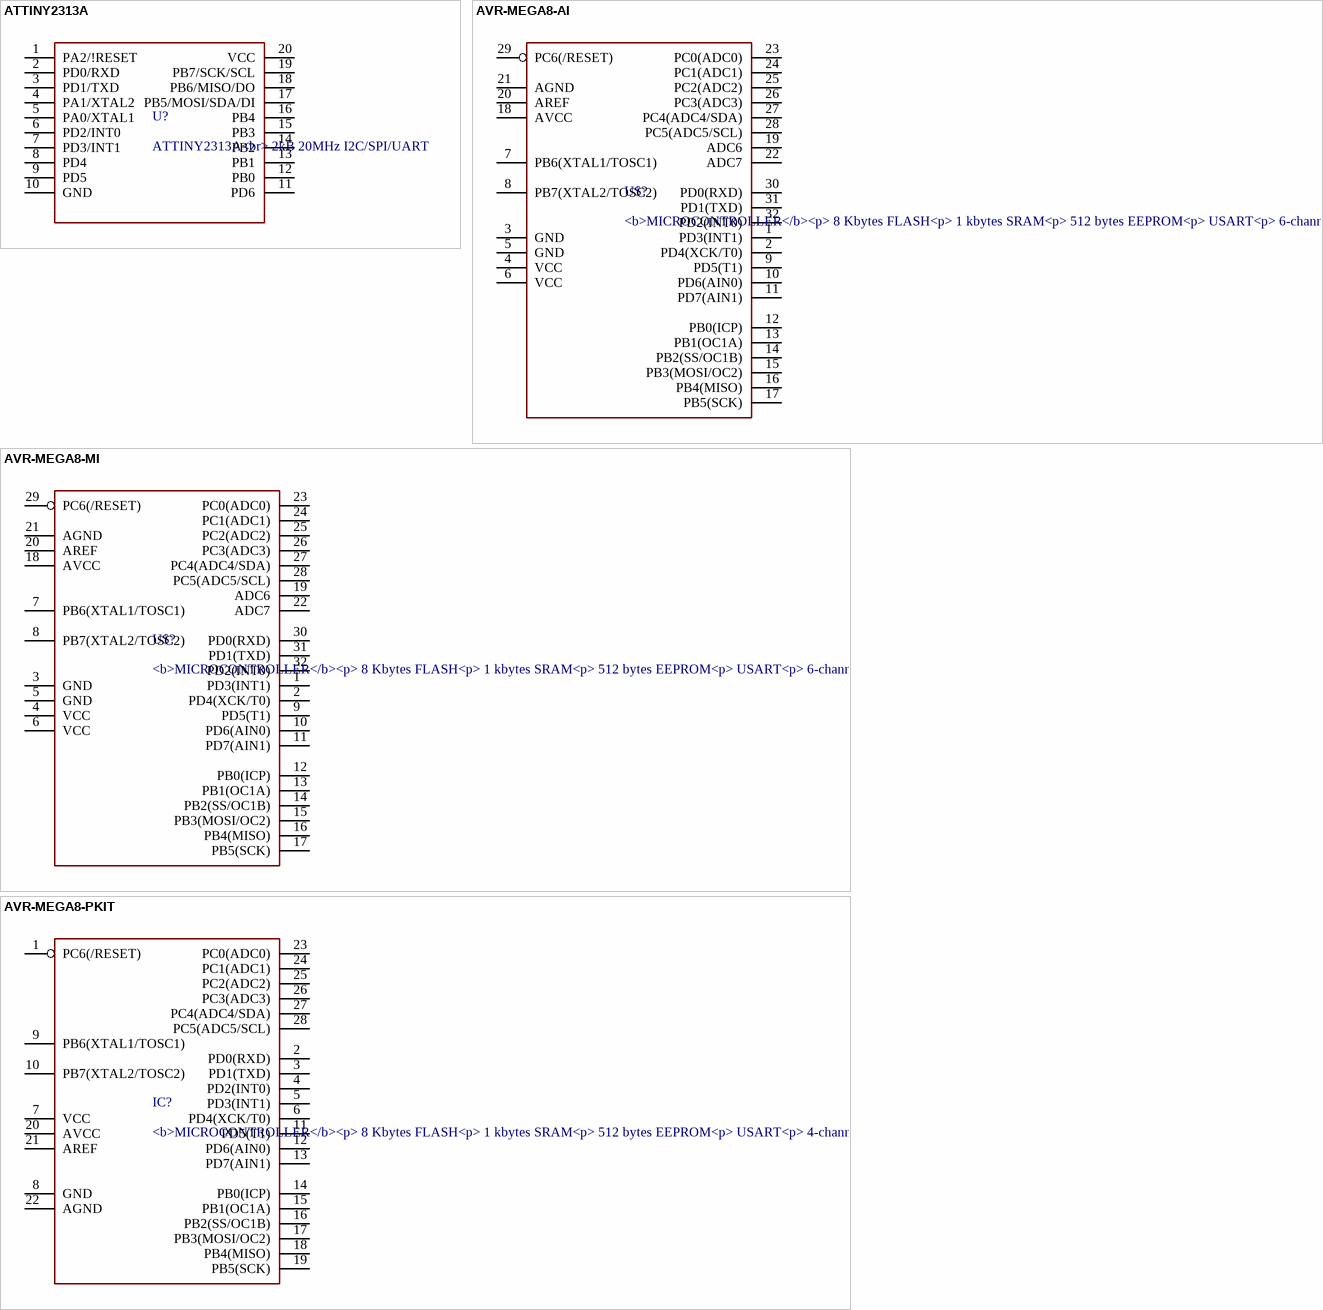
[diagram p6: symbols ATTINY2313A to AVR-MEGA8-PKIT]

## ATTINY2313A
designator U?, comment ATTINY2313A<br> / 2kB 20MHz I2C/SPI/UART
PROD_ID: IC-11305
footprint SOP20W
pins: 1 PA2/!RESET, 2 PD0/RXD, 3 PD1/TXD, 4 PA1/XTAL2, 5 PA0/XTAL1, 6 PD2/INT0, 7 PD3/INT1, 8 PD4, 9 PD5, 10 GND, 11 PD6, 12 PB0, 13 PB1, 14 PB2, 15 PB3, 16 PB4, 17 PB5/MOSI/SDA/DI, 18 PB6/MISO/DO, 19 PB7/SCK/SCL, 20 VCC

## AVR-MEGA8-AI
designator U$?, comment <b>MICROCONTROLLER</b><p> / 8 Kbytes FLASH<p> / 1 kbytes SRAM<p> / 512 bytes EEPROM<p> / USART<p> / 6-channel 10 bit ADC<p> / 2-channel 8 bit ADC
footprint TQFP32-08
pins: 1 PD3(INT1), 2 PD4(XCK/T0), 3 GND, 4 VCC, 5 GND, 6 VCC, 7 PB6(XTAL1/TOSC1), 8 PB7(XTAL2/TOSC2), 9 PD5(T1), 10 PD6(AIN0), 11 PD7(AIN1), 12 PB0(ICP), 13 PB1(OC1A), 14 PB2(SS/OC1B), 15 PB3(MOSI/OC2), 16 PB4(MISO), 17 PB5(SCK), 18 AVCC, 19 ADC6, 20 AREF, 21 AGND, 22 ADC7, 23 PC0(ADC0), 24 PC1(ADC1), 25 PC2(ADC2), 26 PC3(ADC3), 27 PC4(ADC4/SDA), 28 PC5(ADC5/SCL), 29 PC6(/RESET), 30 PD0(RXD), 31 PD1(TXD), 32 PD2(INT0)

## AVR-MEGA8-MI
designator U$?, comment <b>MICROCONTROLLER</b><p> / 8 Kbytes FLASH<p> / 1 kbytes SRAM<p> / 512 bytes EEPROM<p> / USART<p> / 6-channel 10 bit ADC<p> / 2-channel 8 bit ADC
footprint MLF32
pins: 1 PD3(INT1), 2 PD4(XCK/T0), 3 GND, 4 VCC, 5 GND, 6 VCC, 7 PB6(XTAL1/TOSC1), 8 PB7(XTAL2/TOSC2), 9 PD5(T1), 10 PD6(AIN0), 11 PD7(AIN1), 12 PB0(ICP), 13 PB1(OC1A), 14 PB2(SS/OC1B), 15 PB3(MOSI/OC2), 16 PB4(MISO), 17 PB5(SCK), 18 AVCC, 19 ADC6, 20 AREF, 21 AGND, 22 ADC7, 23 PC0(ADC0), 24 PC1(ADC1), 25 PC2(ADC2), 26 PC3(ADC3), 27 PC4(ADC4/SDA), 28 PC5(ADC5/SCL), 29 PC6(/RESET), 30 PD0(RXD), 31 PD1(TXD), 32 PD2(INT0)

## AVR-MEGA8-PKIT
designator IC?, comment <b>MICROCONTROLLER</b><p> / 8 Kbytes FLASH<p> / 1 kbytes SRAM<p> / 512 bytes EEPROM<p> / USART<p> / 4-channel 10 bit ADC<p> / 2-channel 8 bit ADC
footprint DIL28-3-SIMON-KIT
pins: 1 PC6(/RESET), 2 PD0(RXD), 3 PD1(TXD), 4 PD2(INT0), 5 PD3(INT1), 6 PD4(XCK/T0), 7 VCC, 8 GND, 9 PB6(XTAL1/TOSC1), 10 PB7(XTAL2/TOSC2), 11 PD5(T1), 12 PD6(AIN0), 13 PD7(AIN1), 14 PB0(ICP), 15 PB1(OC1A), 16 PB2(SS/OC1B), 17 PB3(MOSI/OC2), 18 PB4(MISO), 19 PB5(SCK), 20 AVCC, 21 AREF, 22 AGND, 23 PC0(ADC0), 24 PC1(ADC1), 25 PC2(ADC2), 26 PC3(ADC3), 27 PC4(ADC4/SDA), 28 PC5(ADC5/SCL)

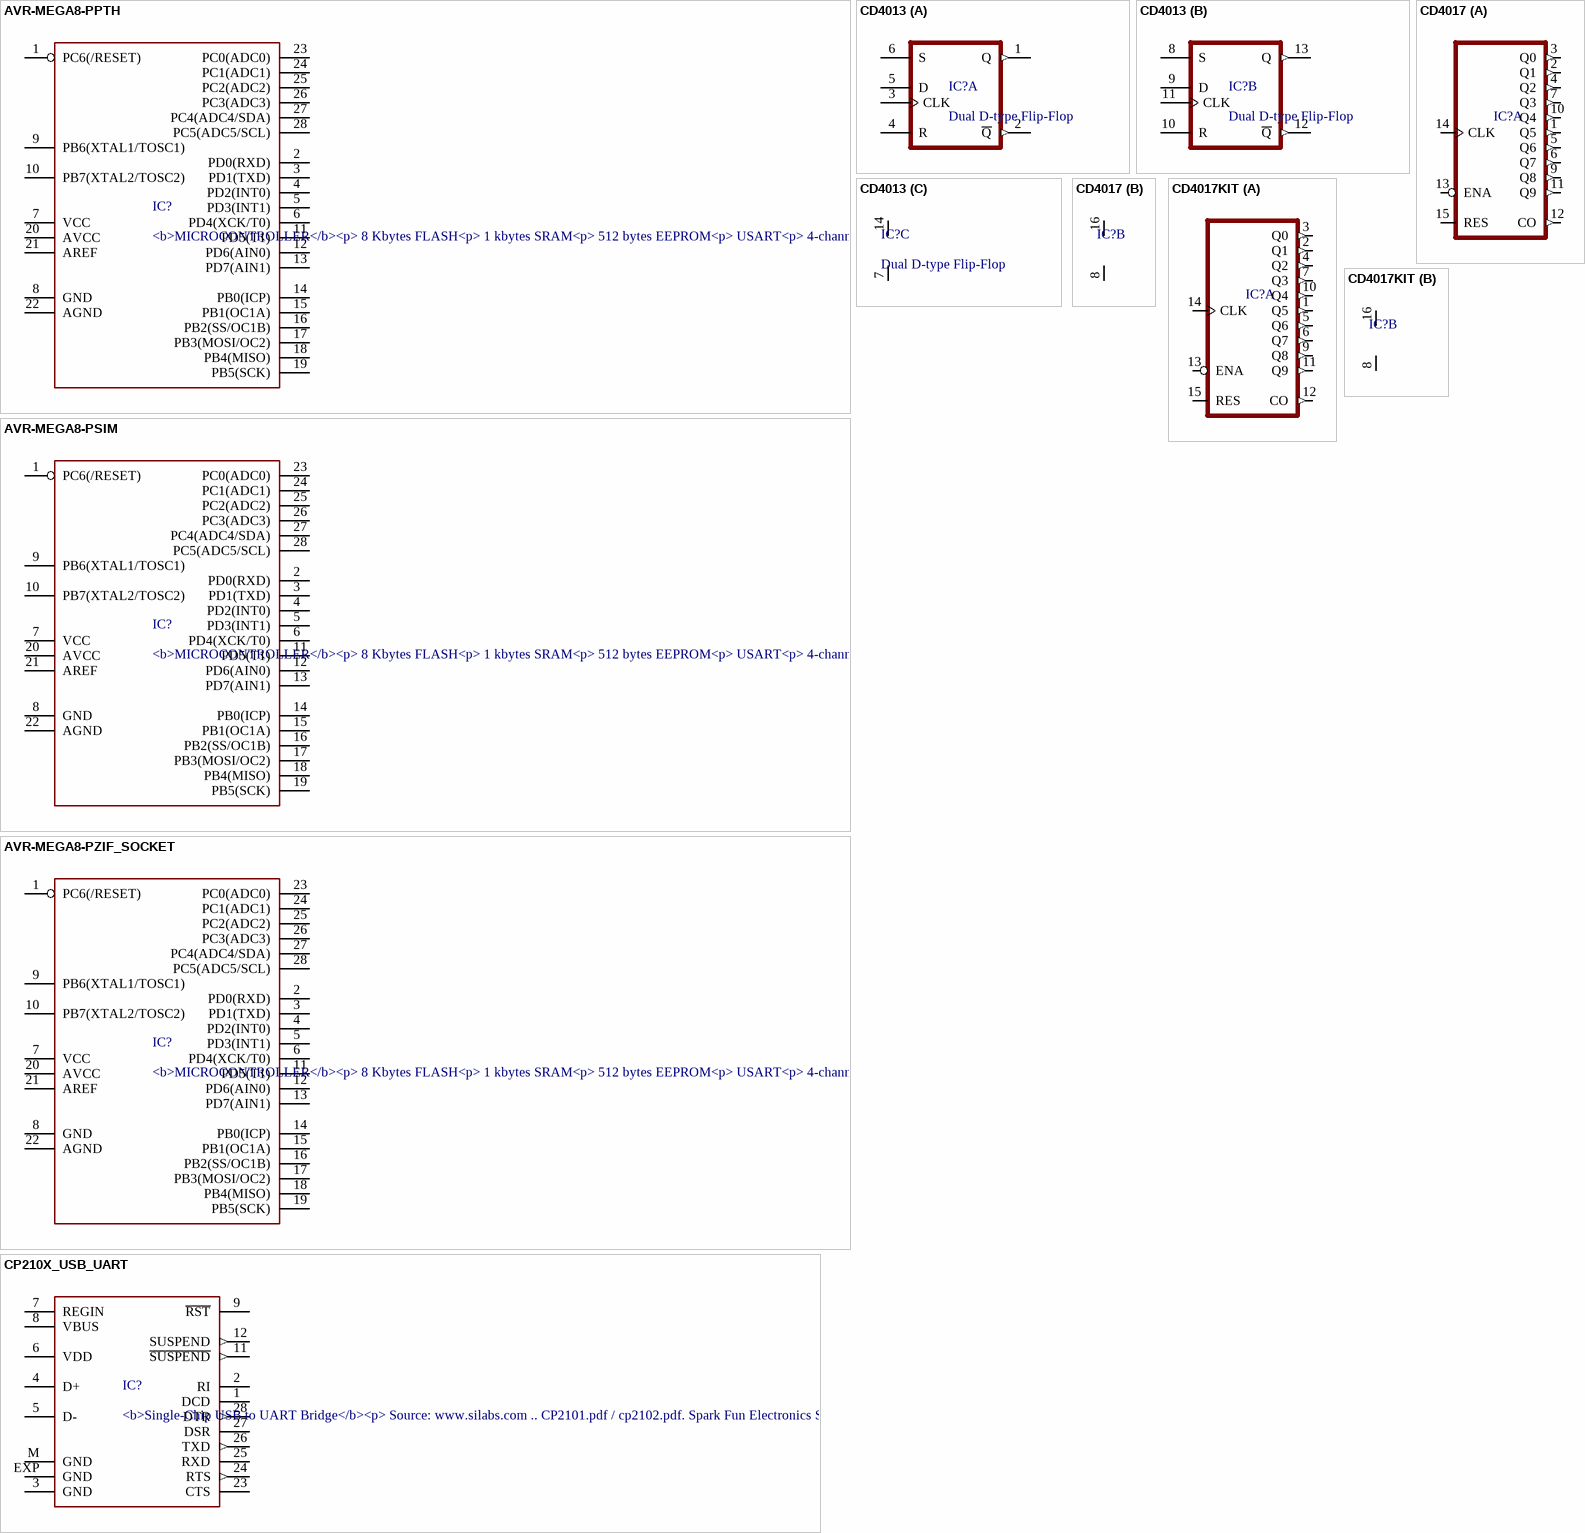
[diagram p7: symbols AVR-MEGA8-PPTH to CP210X_USB_UART]

## AVR-MEGA8-PPTH
designator IC?, comment <b>MICROCONTROLLER</b><p> / 8 Kbytes FLASH<p> / 1 kbytes SRAM<p> / 512 bytes EEPROM<p> / USART<p> / 4-channel 10 bit ADC<p> / 2-channel 8 bit ADC
footprint DIL28-3
pins: 1 PC6(/RESET), 2 PD0(RXD), 3 PD1(TXD), 4 PD2(INT0), 5 PD3(INT1), 6 PD4(XCK/T0), 7 VCC, 8 GND, 9 PB6(XTAL1/TOSC1), 10 PB7(XTAL2/TOSC2), 11 PD5(T1), 12 PD6(AIN0), 13 PD7(AIN1), 14 PB0(ICP), 15 PB1(OC1A), 16 PB2(SS/OC1B), 17 PB3(MOSI/OC2), 18 PB4(MISO), 19 PB5(SCK), 20 AVCC, 21 AREF, 22 AGND, 23 PC0(ADC0), 24 PC1(ADC1), 25 PC2(ADC2), 26 PC3(ADC3), 27 PC4(ADC4/SDA), 28 PC5(ADC5/SCL)

## AVR-MEGA8-PSIM
designator IC?, comment <b>MICROCONTROLLER</b><p> / 8 Kbytes FLASH<p> / 1 kbytes SRAM<p> / 512 bytes EEPROM<p> / USART<p> / 4-channel 10 bit ADC<p> / 2-channel 8 bit ADC
footprint DIL28-3-SIMON
pins: 1 PC6(/RESET), 2 PD0(RXD), 3 PD1(TXD), 4 PD2(INT0), 5 PD3(INT1), 6 PD4(XCK/T0), 7 VCC, 8 GND, 9 PB6(XTAL1/TOSC1), 10 PB7(XTAL2/TOSC2), 11 PD5(T1), 12 PD6(AIN0), 13 PD7(AIN1), 14 PB0(ICP), 15 PB1(OC1A), 16 PB2(SS/OC1B), 17 PB3(MOSI/OC2), 18 PB4(MISO), 19 PB5(SCK), 20 AVCC, 21 AREF, 22 AGND, 23 PC0(ADC0), 24 PC1(ADC1), 25 PC2(ADC2), 26 PC3(ADC3), 27 PC4(ADC4/SDA), 28 PC5(ADC5/SCL)

## AVR-MEGA8-PZIF_SOCKET
designator IC?, comment <b>MICROCONTROLLER</b><p> / 8 Kbytes FLASH<p> / 1 kbytes SRAM<p> / 512 bytes EEPROM<p> / USART<p> / 4-channel 10 bit ADC<p> / 2-channel 8 bit ADC
footprint DIL28-3-ZIF_SOCKET
pins: 1 PC6(/RESET), 2 PD0(RXD), 3 PD1(TXD), 4 PD2(INT0), 5 PD3(INT1), 6 PD4(XCK/T0), 7 VCC, 8 GND, 9 PB6(XTAL1/TOSC1), 10 PB7(XTAL2/TOSC2), 11 PD5(T1), 12 PD6(AIN0), 13 PD7(AIN1), 14 PB0(ICP), 15 PB1(OC1A), 16 PB2(SS/OC1B), 17 PB3(MOSI/OC2), 18 PB4(MISO), 19 PB5(SCK), 20 AVCC, 21 AREF, 22 AGND, 23 PC0(ADC0), 24 PC1(ADC1), 25 PC2(ADC2), 26 PC3(ADC3), 27 PC4(ADC4/SDA), 28 PC5(ADC5/SCL)

## CD4013
designator IC?, comment Dual D-type Flip-Flop
PROD_ID: IC-11896
footprint DIL14-KIT
part A pins: 1 Q (out), 2 ~{Q} (out), 3 CLK, 4 R, 5 D, 6 S
part B pins: 8 S, 9 D, 10 R, 11 CLK, 12 ~{Q} (out), 13 Q (out)
part C pins: 7 GND (power), 14 VCC (power)

## CD4017
designator IC?
PROD_ID: IC-11929
footprint DIL16
part A pins: 1 Q5 (out), 2 Q1 (out), 3 Q0 (out), 4 Q2 (out), 5 Q6 (out), 6 Q7 (out), 7 Q3 (out), 9 Q8 (out), 10 Q4 (out), 11 Q9 (out), 12 CO (out), 13 ENA, 14 CLK, 15 RES
part B pins: 8 GND (power), 16 VCC (power)

## CD4017KIT
designator IC?
PROD_ID: IC-11929
footprint DIL16-KIT
part A pins: 1 Q5 (out), 2 Q1 (out), 3 Q0 (out), 4 Q2 (out), 5 Q6 (out), 6 Q7 (out), 7 Q3 (out), 9 Q8 (out), 10 Q4 (out), 11 Q9 (out), 12 CO (out), 13 ENA, 14 CLK, 15 RES
part B pins: 8 GND (power), 16 VCC (power)

## CP210X_USB_UART
designator IC?, comment <b>Single-Chip USB to UART Bridge</b><p> / Source: www.silabs.com .. CP2101.pdf / cp2102.pdf. Spark Fun Electronics SKU : COM-00310
footprint MLP28
pins: 1 DCD, 2 RI, 3 GND (power), 4 D+, 5 D-, 6 VDD (power), 7 REGIN, 8 VBUS, 9 ~{RST}, 11 ~{SUSPEND} (out), 12 SUSPEND (out), 23 CTS, 24 RTS (out), 25 RXD, 26 TXD (out), 27 DSR, 28 DTR (out), EXP GND (power), M GND (power)

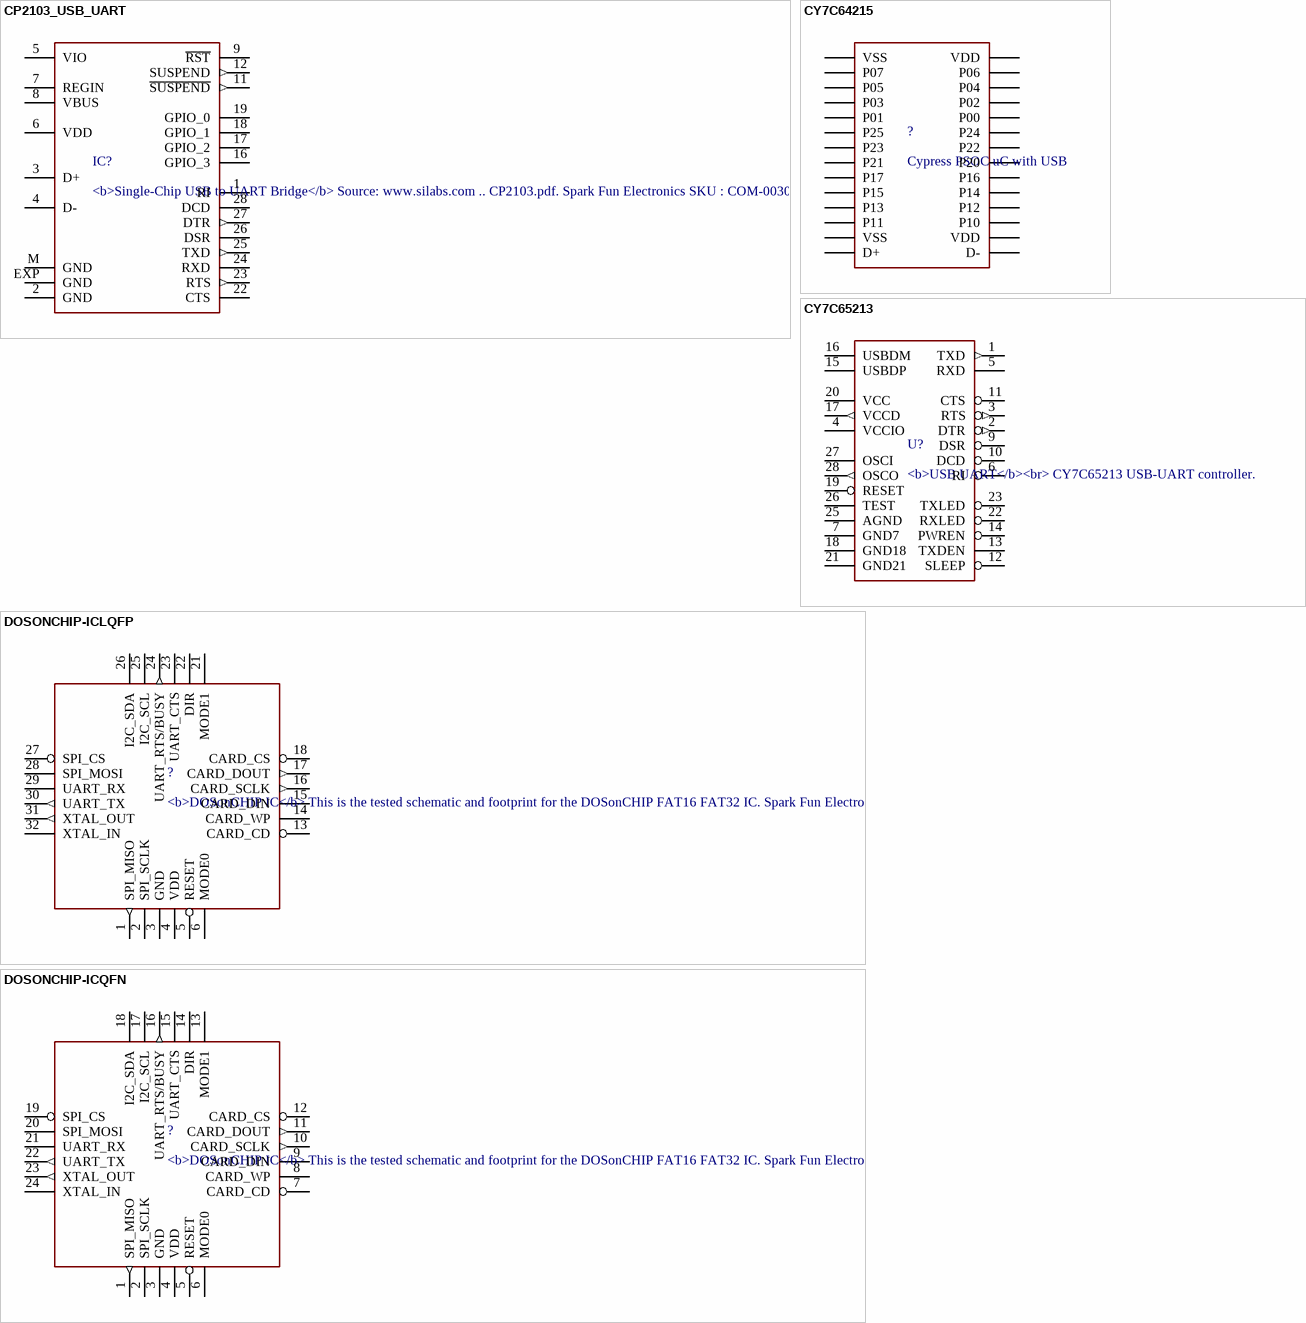
[diagram p8: symbols CP2103_USB_UART to DOSONCHIP-ICQFN]

## CP2103_USB_UART
designator IC?, comment <b>Single-Chip USB to UART Bridge</b> / Source: www.silabs.com .. CP2103.pdf. Spark Fun Electronics SKU : COM-00309
footprint MLP28
pins: 1 RI, 2 GND (power), 3 D+, 4 D-, 5 VIO (power), 6 VDD (power), 7 REGIN, 8 VBUS, 9 ~{RST}, 11 ~{SUSPEND} (out), 12 SUSPEND (out), 16 GPIO_3, 17 GPIO_2, 18 GPIO_1, 19 GPIO_0, 22 CTS, 23 RTS (out), 24 RXD, 25 TXD (out), 26 DSR, 27 DTR (out), 28 DCD, EXP GND (power), M GND (power)

## CY7C64215
designator ?, comment Cypress PSOC uC with USB
footprint SSOP28DB
pins: 1 VSS, 2 P07, 3 P05, 4 P03, 5 P01, 6 P25, 7 P23, 8 P21, 9 P17, 10 P15, 11 P13, 12 P11, 13 VSS, 14 D+, 15 D-, 16 VDD, 17 P10, 18 P12, 19 P14, 20 P16, 21 P20, 22 P22, 23 P24, 24 P00, 25 P02, 26 P04, 27 P06, 28 VDD

## CY7C65213
designator U?, comment <b>USB UART</b><br> / CY7C65213 USB-UART controller.
PROD_ID: IC-12487
footprint SSOP28DB
pins: 1 TXD (out), 2 DTR (out), 3 RTS (out), 4 VCCIO (power), 5 RXD, 6 RI, 7 GND7 (power), 9 DSR, 10 DCD, 11 CTS, 12 SLEEP, 13 TXDEN, 14 PWREN, 15 USBDP, 16 USBDM, 17 VCCD (out), 18 GND18 (power), 19 RESET, 20 VCC (power), 21 GND21 (power), 22 RXLED, 23 TXLED, 25 AGND (power), 26 TEST, 27 OSCI, 28 OSCO (out)

## DOSONCHIP-ICLQFP
designator ?, comment <b>DOSonCHIP IC</b> / This is the tested schematic and footprint for the DOSonCHIP FAT16 FAT32 IC. Spark Fun Electronics SKU : COM-07956. QFN package also tested/proven.
footprint LQFP-32
pins: 1 SPI_MISO (out), 2 SPI_SCLK, 3 GND, 4 VDD, 5 RESET, 6 MODE0, 13 CARD_CD, 14 CARD_WP, 15 CARD_DIN, 16 CARD_SCLK (out), 17 CARD_DOUT (out), 18 CARD_CS, 21 MODE1, 22 DIR, 23 UART_CTS, 24 UART_RTS/BUSY (out), 25 I2C_SCL, 26 I2C_SDA, 27 SPI_CS, 28 SPI_MOSI, 29 UART_RX, 30 UART_TX (out), 31 XTAL_OUT (out), 32 XTAL_IN

## DOSONCHIP-ICQFN
designator ?, comment <b>DOSonCHIP IC</b> / This is the tested schematic and footprint for the DOSonCHIP FAT16 FAT32 IC. Spark Fun Electronics SKU : COM-07956. QFN package also tested/proven.
footprint QFN-24
pins: 1 SPI_MISO (out), 2 SPI_SCLK, 3 GND, 4 VDD, 5 RESET, 6 MODE0, 7 CARD_CD, 8 CARD_WP, 9 CARD_DIN, 10 CARD_SCLK (out), 11 CARD_DOUT (out), 12 CARD_CS, 13 MODE1, 14 DIR, 15 UART_CTS, 16 UART_RTS/BUSY (out), 17 I2C_SCL, 18 I2C_SDA, 19 SPI_CS, 20 SPI_MOSI, 21 UART_RX, 22 UART_TX (out), 23 XTAL_OUT (out), 24 XTAL_IN

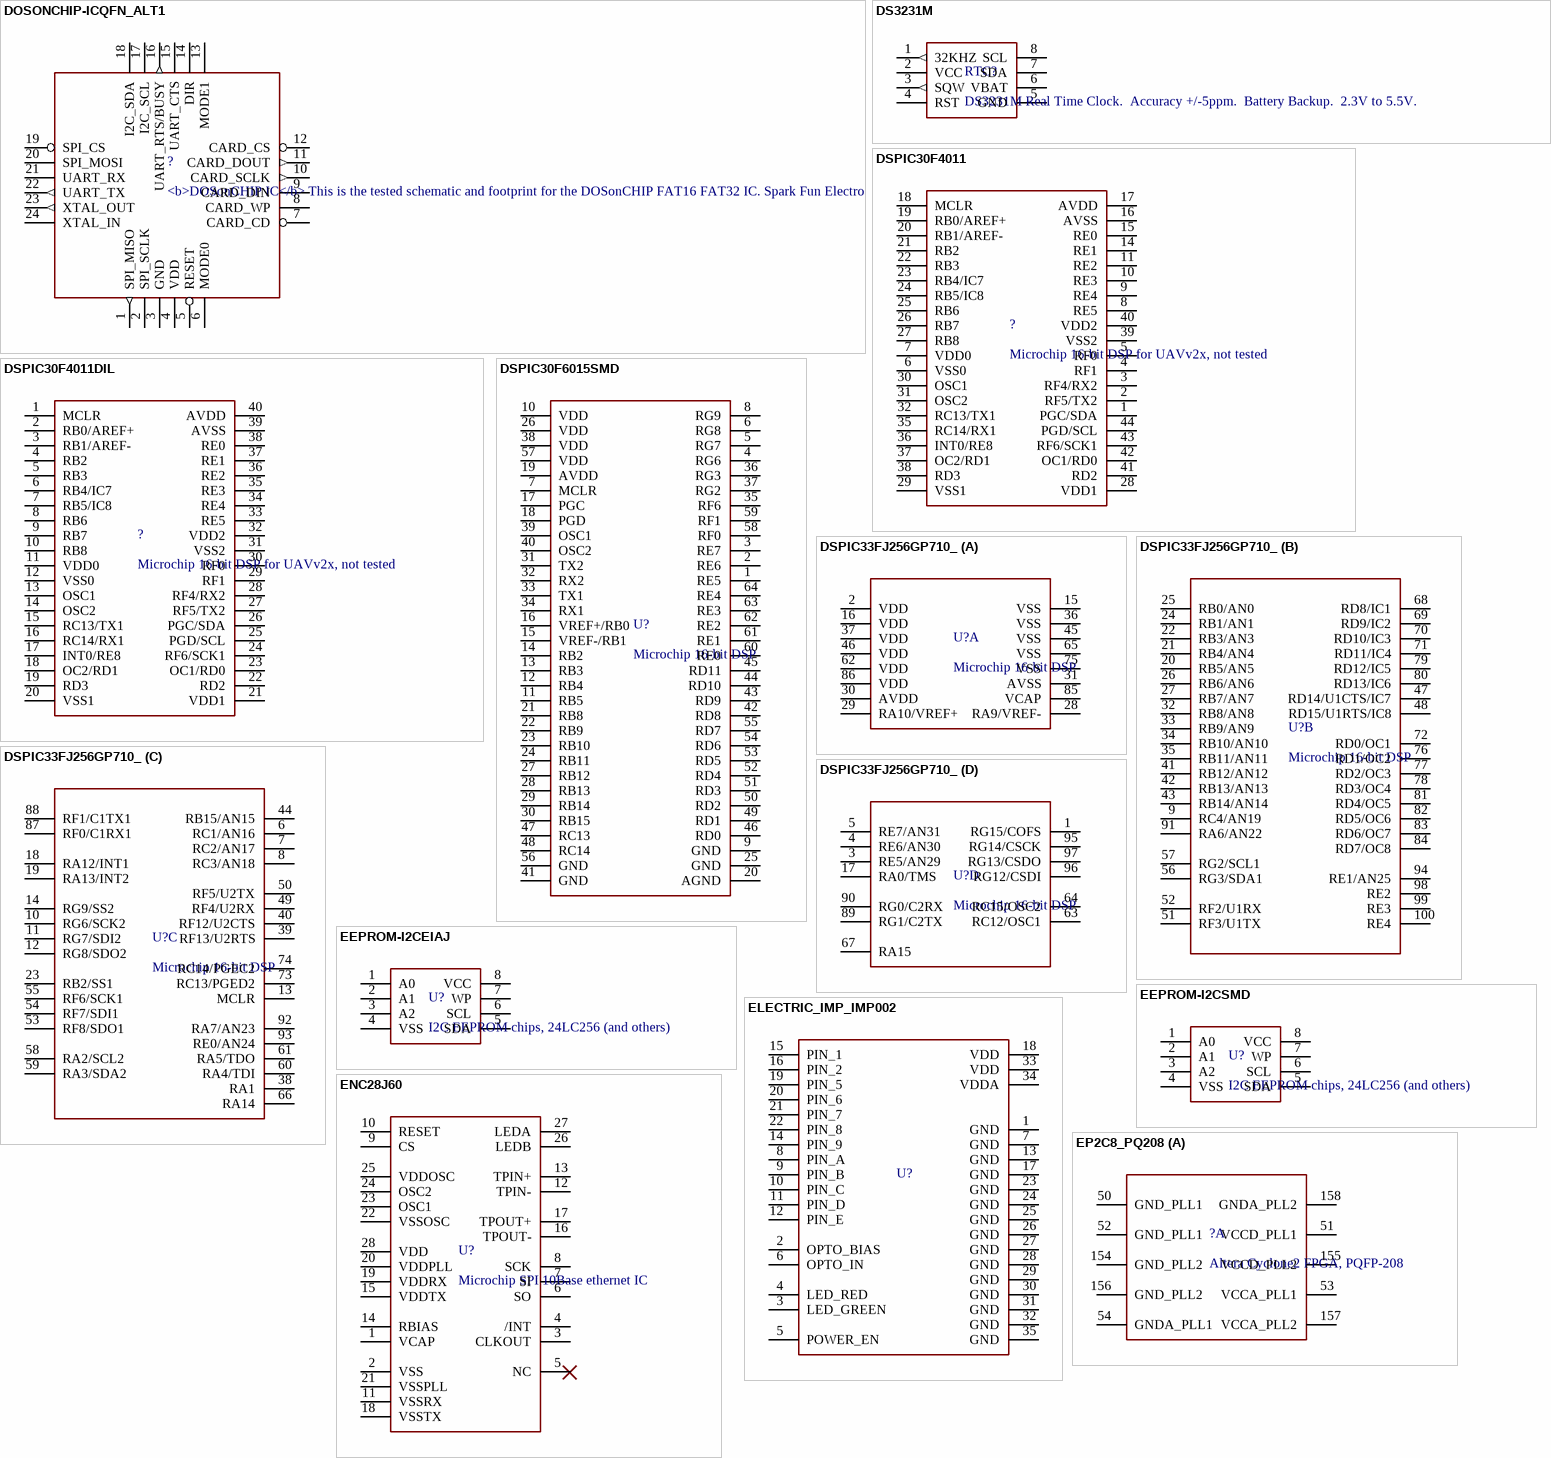
[diagram p9: symbols DOSONCHIP-ICQFN_ALT1 to EP2C8_PQ208]

## DOSONCHIP-ICQFN_ALT1
designator ?, comment <b>DOSonCHIP IC</b> / This is the tested schematic and footprint for the DOSonCHIP FAT16 FAT32 IC. Spark Fun Electronics SKU : COM-07956. QFN package also tested/proven.
footprint QFN-24_ALT1.PAC
pins: 1 SPI_MISO (out), 2 SPI_SCLK, 3 GND, 4 VDD, 5 RESET, 6 MODE0, 7 CARD_CD, 8 CARD_WP, 9 CARD_DIN, 10 CARD_SCLK (out), 11 CARD_DOUT (out), 12 CARD_CS, 13 MODE1, 14 DIR, 15 UART_CTS, 16 UART_RTS/BUSY (out), 17 I2C_SCL, 18 I2C_SDA, 19 SPI_CS, 20 SPI_MOSI, 21 UART_RX, 22 UART_TX (out), 23 XTAL_OUT (out), 24 XTAL_IN

## DS3231M
designator RTC?, comment DS3231M Real Time Clock.  Accuracy +/-5ppm.  Battery Backup.  2.3V to 5.5V.
PROD_ID: IC-11985
footprint SOIC8
pins: 1 32KHZ (out), 2 VCC (power), 3 SQW (out), 4 RST, 5 GND (power), 6 VBAT (power), 7 SDA, 8 SCL

## DSPIC30F4011
designator ?, comment Microchip 16-bit DSP for UAVv2x, not tested
footprint TQFP44
pins: 1 PGC/SDA, 2 RF5/TX2, 3 RF4/RX2, 4 RF1, 5 RF0, 6 VSS0, 7 VDD0, 8 RE5, 9 RE4, 10 RE3, 11 RE2, 14 RE1, 15 RE0, 16 AVSS, 17 AVDD, 18 MCLR, 19 RB0/AREF+, 20 RB1/AREF-, 21 RB2, 22 RB3, 23 RB4/IC7, 24 RB5/IC8, 25 RB6, 26 RB7, 27 RB8, 28 VDD1, 29 VSS1, 30 OSC1, 31 OSC2, 32 RC13/TX1, 35 RC14/RX1, 36 INT0/RE8, 37 OC2/RD1, 38 RD3, 39 VSS2, 40 VDD2, 41 RD2, 42 OC1/RD0, 43 RF6/SCK1, 44 PGD/SCL

## DSPIC30F4011DIL
designator ?, comment Microchip 16-bit DSP for UAVv2x, not tested
footprint DIL40
pins: 1 MCLR, 2 RB0/AREF+, 3 RB1/AREF-, 4 RB2, 5 RB3, 6 RB4/IC7, 7 RB5/IC8, 8 RB6, 9 RB7, 10 RB8, 11 VDD0, 12 VSS0, 13 OSC1, 14 OSC2, 15 RC13/TX1, 16 RC14/RX1, 17 INT0/RE8, 18 OC2/RD1, 19 RD3, 20 VSS1, 21 VDD1, 22 RD2, 23 OC1/RD0, 24 RF6/SCK1, 25 PGD/SCL, 26 PGC/SDA, 27 RF5/TX2, 28 RF4/RX2, 29 RF1, 30 RF0, 31 VSS2, 32 VDD2, 33 RE5, 34 RE4, 35 RE3, 36 RE2, 37 RE1, 38 RE0, 39 AVSS, 40 AVDD

## DSPIC30F6015SMD
designator U?, comment Microchip 16-bit DSP
footprint TQFP64
pins: 1 RE5, 2 RE6, 3 RE7, 4 RG6, 5 RG7, 6 RG8, 7 MCLR, 8 RG9, 9 GND, 10 VDD, 11 RB5, 12 RB4, 13 RB3, 14 RB2, 15 VREF-/RB1, 16 VREF+/RB0, 17 PGC, 18 PGD, 19 AVDD, 20 AGND, 21 RB8, 22 RB9, 23 RB10, 24 RB11, 25 GND, 26 VDD, 27 RB12, 28 RB13, 29 RB14, 30 RB15, 31 TX2, 32 RX2, 33 TX1, 34 RX1, 35 RF6, 36 RG3, 37 RG2, 38 VDD, 39 OSC1, 40 OSC2, 41 GND, 42 RD8, 43 RD9, 44 RD10, 45 RD11, 46 RD0, 47 RC13, 48 RC14, 49 RD1, 50 RD2, 51 RD3, 52 RD4, 53 RD5, 54 RD6, 55 RD7, 56 GND, 57 VDD, 58 RF0, 59 RF1, 60 RE0, 61 RE1, 62 RE2, 63 RE3, 64 RE4

## DSPIC33FJ256GP710_
designator U?, comment Microchip 16-bit DSP
footprint TQFP-100-12X12MM
part A pins: 2 VDD, 15 VSS, 16 VDD, 28 RA9/VREF-, 29 RA10/VREF+, 30 AVDD, 31 AVSS, 36 VSS, 37 VDD, 45 VSS, 46 VDD, 62 VDD, 65 VSS, 75 VSS, 85 VCAP, 86 VDD
part B pins: 9 RC4/AN19, 20 RB5/AN5, 21 RB4/AN4, 22 RB3/AN3, 24 RB1/AN1, 25 RB0/AN0, 26 RB6/AN6, 27 RB7/AN7, 32 RB8/AN8, 33 RB9/AN9, 34 RB10/AN10, 35 RB11/AN11, 41 RB12/AN12, 42 RB13/AN13, 43 RB14/AN14, 47 RD14/U1CTS/IC7, 48 RD15/U1RTS/IC8, 51 RF3/U1TX, 52 RF2/U1RX, 56 RG3/SDA1, 57 RG2/SCL1, 68 RD8/IC1, 69 RD9/IC2, 70 RD10/IC3, 71 RD11/IC4, 72 RD0/OC1, 76 RD1/OC2, 77 RD2/OC3, 78 RD3/OC4, 79 RD12/IC5, 80 RD13/IC6, 81 RD4/OC5, 82 RD5/OC6, 83 RD6/OC7, 84 RD7/OC8, 91 RA6/AN22, 94 RE1/AN25, 98 RE2, 99 RE3, 100 RE4
part C pins: 6 RC1/AN16, 7 RC2/AN17, 8 RC3/AN18, 10 RG6/SCK2, 11 RG7/SDI2, 12 RG8/SDO2, 13 MCLR, 14 RG9/SS2, 18 RA12/INT1, 19 RA13/INT2, 23 RB2/SS1, 38 RA1, 39 RF13/U2RTS, 40 RF12/U2CTS, 44 RB15/AN15, 49 RF4/U2RX, 50 RF5/U2TX, 53 RF8/SDO1, 54 RF7/SDI1, 55 RF6/SCK1, 58 RA2/SCL2, 59 RA3/SDA2, 60 RA4/TDI, 61 RA5/TDO, 66 RA14, 73 RC13/PGED2, 74 RC14/PGEC2, 87 RF0/C1RX1, 88 RF1/C1TX1, 92 RA7/AN23, 93 RE0/AN24
part D pins: 1 RG15/COFS, 3 RE5/AN29, 4 RE6/AN30, 5 RE7/AN31, 17 RA0/TMS, 63 RC12/OSC1, 64 RC15/OSC2, 67 RA15, 89 RG1/C2TX, 90 RG0/C2RX, 95 RG14/CSCK, 96 RG12/CSDI, 97 RG13/CSDO

## EEPROM-I2CEIAJ
designator U?, comment I2C EEPROM chips, 24LC256 (and others)
footprint SO08-EIAJ
pins: 1 A0, 2 A1, 3 A2, 4 VSS (power), 5 SDA, 6 SCL, 7 WP, 8 VCC (power)

## EEPROM-I2CSMD
designator U?, comment I2C EEPROM chips, 24LC256 (and others)
footprint SO08
pins: 1 A0, 2 A1, 3 A2, 4 VSS (power), 5 SDA, 6 SCL, 7 WP, 8 VCC (power)

## ELECTRIC_IMP_IMP002
designator U?
PROD_ID: IC-12130
footprint ELECTRIC_IMP_IMP002
pins: 1 GND, 2 OPTO_BIAS, 3 LED_GREEN, 4 LED_RED, 5 POWER_EN, 6 OPTO_IN, 7 GND, 8 PIN_A, 9 PIN_B, 10 PIN_C, 11 PIN_D, 12 PIN_E, 13 GND, 14 PIN_9, 15 PIN_1, 16 PIN_2, 17 GND, 18 VDD, 19 PIN_5, 20 PIN_6, 21 PIN_7, 22 PIN_8, 23 GND, 24 GND, 25 GND, 26 GND, 27 GND, 28 GND, 29 GND, 30 GND, 31 GND, 32 GND, 33 VDD, 34 VDDA, 35 GND

## ENC28J60
designator U?, comment Microchip SPI 10Base ethernet IC
footprint SSOP28DB
pins: 1 VCAP, 2 VSS, 3 CLKOUT, 4 /INT, 5 NC, 6 SO, 7 SI, 8 SCK, 9 CS, 10 RESET, 11 VSSRX, 12 TPIN-, 13 TPIN+, 14 RBIAS, 15 VDDTX, 16 TPOUT-, 17 TPOUT+, 18 VSSTX, 19 VDDRX, 20 VDDPLL, 21 VSSPLL, 22 VSSOSC, 23 OSC1, 24 OSC2, 25 VDDOSC, 26 LEDB, 27 LEDA, 28 VDD

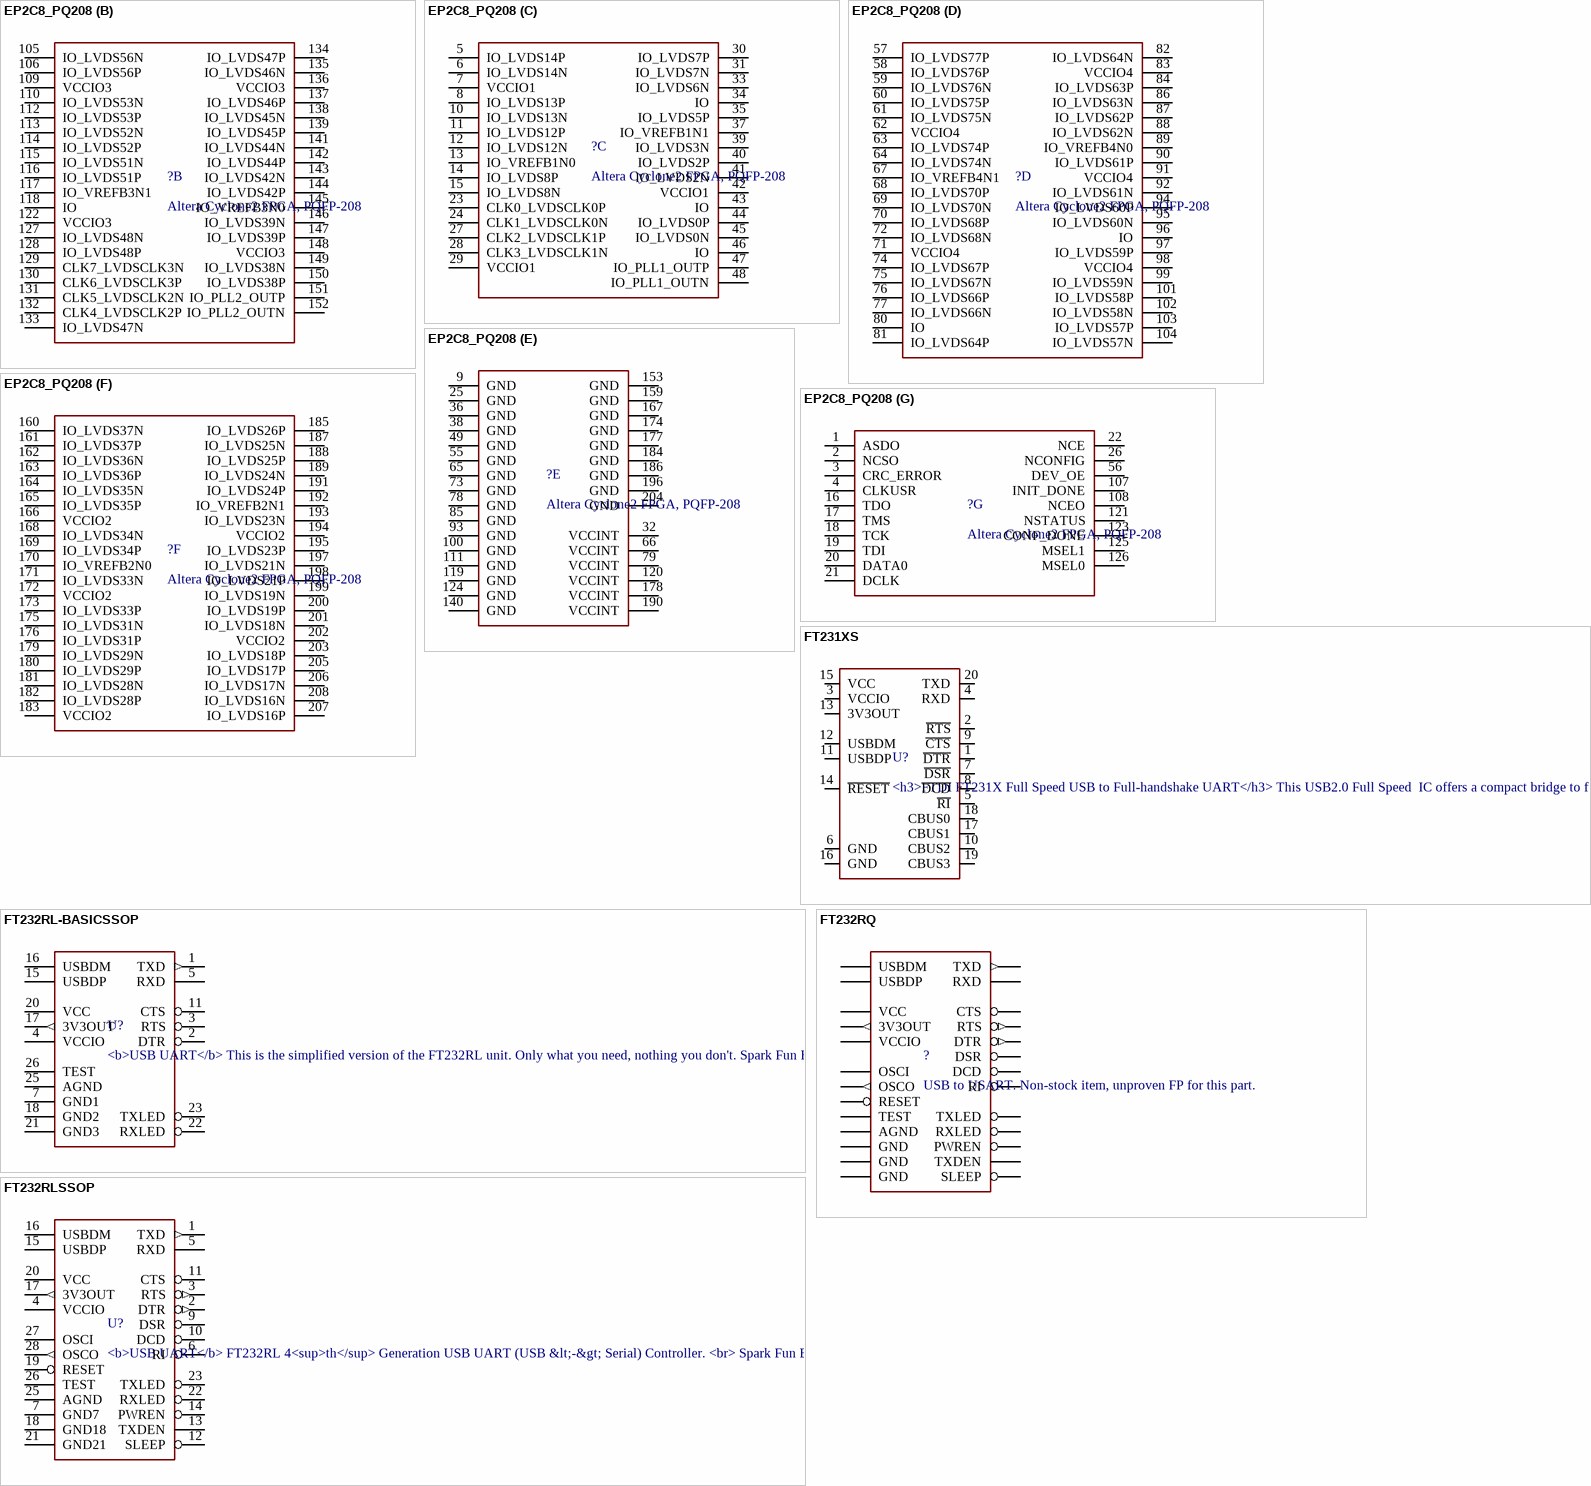
[diagram p10: symbols EP2C8_PQ208 to FT232RQ]

## EP2C8_PQ208
designator ?, comment Altera Cyclone2 FPGA, PQFP-208
footprint PQFP208
part A pins: 50 GND_PLL1 (power), 51 VCCD_PLL1 (power), 52 GND_PLL1 (power), 53 VCCA_PLL1 (power), 54 GNDA_PLL1 (power), 154 GND_PLL2 (power), 155 VCCD_PLL2 (power), 156 GND_PLL2 (power), 157 VCCA_PLL2 (power), 158 GNDA_PLL2 (power)
part B pins: 105 IO_LVDS56N, 106 IO_LVDS56P, 109 VCCIO3, 110 IO_LVDS53N, 112 IO_LVDS53P, 113 IO_LVDS52N, 114 IO_LVDS52P, 115 IO_LVDS51N, 116 IO_LVDS51P, 117 IO_VREFB3N1, 118 IO, 122 VCCIO3, 127 IO_LVDS48N, 128 IO_LVDS48P, 129 CLK7_LVDSCLK3N, 130 CLK6_LVDSCLK3P, 131 CLK5_LVDSCLK2N, 132 CLK4_LVDSCLK2P, 133 IO_LVDS47N, 134 IO_LVDS47P, 135 IO_LVDS46N, 136 VCCIO3, 137 IO_LVDS46P, 138 IO_LVDS45N, 139 IO_LVDS45P, 141 IO_LVDS44N, 142 IO_LVDS44P, 143 IO_LVDS42N, 144 IO_LVDS42P, 145 IO_VREFB3N0, 146 IO_LVDS39N, 147 IO_LVDS39P, 148 VCCIO3, 149 IO_LVDS38N, 150 IO_LVDS38P, 151 IO_PLL2_OUTP, 152 IO_PLL2_OUTN
part C pins: 5 IO_LVDS14P, 6 IO_LVDS14N, 7 VCCIO1, 8 IO_LVDS13P, 10 IO_LVDS13N, 11 IO_LVDS12P, 12 IO_LVDS12N, 13 IO_VREFB1N0, 14 IO_LVDS8P, 15 IO_LVDS8N, 23 CLK0_LVDSCLK0P, 24 CLK1_LVDSCLK0N, 27 CLK2_LVDSCLK1P, 28 CLK3_LVDSCLK1N, 29 VCCIO1, 30 IO_LVDS7P, 31 IO_LVDS7N, 33 IO_LVDS6N, 34 IO, 35 IO_LVDS5P, 37 IO_VREFB1N1, 39 IO_LVDS3N, 40 IO_LVDS2P, 41 IO_LVDS2N, 42 VCCIO1, 43 IO, 44 IO_LVDS0P, 45 IO_LVDS0N, 46 IO, 47 IO_PLL1_OUTP, 48 IO_PLL1_OUTN
part D pins: 57 IO_LVDS77P, 58 IO_LVDS76P, 59 IO_LVDS76N, 60 IO_LVDS75P, 61 IO_LVDS75N, 62 VCCIO4, 63 IO_LVDS74P, 64 IO_LVDS74N, 67 IO_VREFB4N1, 68 IO_LVDS70P, 69 IO_LVDS70N, 70 IO_LVDS68P, 71 VCCIO4, 72 IO_LVDS68N, 74 IO_LVDS67P, 75 IO_LVDS67N, 76 IO_LVDS66P, 77 IO_LVDS66N, 80 IO, 81 IO_LVDS64P, 82 IO_LVDS64N, 83 VCCIO4, 84 IO_LVDS63P, 86 IO_LVDS63N, 87 IO_LVDS62P, 88 IO_LVDS62N, 89 IO_VREFB4N0, 90 IO_LVDS61P, 91 VCCIO4, 92 IO_LVDS61N, 94 IO_LVDS60P, 95 IO_LVDS60N, 96 IO, 97 IO_LVDS59P, 98 VCCIO4, 99 IO_LVDS59N, 101 IO_LVDS58P, 102 IO_LVDS58N, 103 IO_LVDS57P, 104 IO_LVDS57N
part E pins: 9 GND (power), 25 GND (power), 32 VCCINT (power), 36 GND (power), 38 GND (power), 49 GND (power), 55 GND (power), 65 GND (power), 66 VCCINT (power), 73 GND (power), 78 GND (power), 79 VCCINT (power), 85 GND (power), 93 GND (power), 100 GND (power), 111 GND (power), 119 GND (power), 120 VCCINT (power), 124 GND, 140 GND, 153 GND, 159 GND, 167 GND, 174 GND, 177 GND, 178 VCCINT (power), 184 GND, 186 GND, 190 VCCINT (power), 196 GND, 204 GND
part F pins: 160 IO_LVDS37N, 161 IO_LVDS37P, 162 IO_LVDS36N, 163 IO_LVDS36P, 164 IO_LVDS35N, 165 IO_LVDS35P, 166 VCCIO2, 168 IO_LVDS34N, 169 IO_LVDS34P, 170 IO_VREFB2N0, 171 IO_LVDS33N, 172 VCCIO2, 173 IO_LVDS33P, 175 IO_LVDS31N, 176 IO_LVDS31P, 179 IO_LVDS29N, 180 IO_LVDS29P, 181 IO_LVDS28N, 182 IO_LVDS28P, 183 VCCIO2, 185 IO_LVDS26P, 187 IO_LVDS25N, 188 IO_LVDS25P, 189 IO_LVDS24N, 191 IO_LVDS24P, 192 IO_VREFB2N1, 193 IO_LVDS23N, 194 VCCIO2, 195 IO_LVDS23P, 197 IO_LVDS21N, 198 IO_LVDS21P, 199 IO_LVDS19N, 200 IO_LVDS19P, 201 IO_LVDS18N, 202 VCCIO2, 203 IO_LVDS18P, 205 IO_LVDS17P, 206 IO_LVDS17N, 207 IO_LVDS16P, 208 IO_LVDS16N
part G pins: 1 ASDO, 2 NCSO, 3 CRC_ERROR, 4 CLKUSR, 16 TDO, 17 TMS, 18 TCK, 19 TDI, 20 DATA0, 21 DCLK, 22 NCE, 26 NCONFIG, 56 DEV_OE, 107 INIT_DONE, 108 NCEO, 121 NSTATUS, 123 CONF_DONE, 125 MSEL1, 126 MSEL0

## FT231XS
designator U?, comment <h3>FTDI FT231X Full Speed USB to Full-handshake UART</h3> / This USB2.0 Full Speed  IC offers a compact bridge to full handshake UART interfaces. The device is a UART, capable of operating up to 3MBaud, with low power consumption (8mA). The FT231X includes the complete FT-X series feature set and enables USB to be added into a system design quickly and easily over a UART interface.<br><br>
PROD_ID: IC-11524
footprint SSOP20_L
pins: 1 ~{DTR}, 2 ~{RTS}, 3 VCCIO, 4 RXD, 5 ~{RI}, 6 GND, 7 ~{DSR}, 8 ~{DCD}, 9 ~{CTS}, 10 CBUS2, 11 USBDP, 12 USBDM, 13 3V3OUT, 14 ~{RESET}, 15 VCC, 16 GND, 17 CBUS1, 18 CBUS0, 19 CBUS3, 20 TXD

## FT232RL-BASICSSOP
designator U?, comment <b>USB UART</b> / This is the simplified version of the FT232RL unit. Only what you need, nothing you don't. Spark Fun Electronics SKU : COM-00650
footprint SSOP28DB
pins: 1 TXD (out), 2 DTR, 3 RTS, 4 VCCIO (power), 5 RXD, 7 GND1 (power), 11 CTS, 15 USBDP, 16 USBDM, 17 3V3OUT (out), 18 GND2 (power), 20 VCC (power), 21 GND3 (power), 22 RXLED, 23 TXLED, 25 AGND (power), 26 TEST

## FT232RLSSOP
designator U?, comment <b>USB UART</b> / FT232RL 4<sup>th</sup> Generation USB UART (USB &lt;-&gt; Serial) Controller. <br> / Spark Fun Electronics SKU : COM-00650<br> / Production SKU IC-00870
PROD_ID: IC-00870
footprint SSOP28DB
pins: 1 TXD (out), 2 DTR (out), 3 RTS (out), 4 VCCIO (power), 5 RXD, 6 RI, 7 GND7 (power), 9 DSR, 10 DCD, 11 CTS, 12 SLEEP, 13 TXDEN, 14 PWREN, 15 USBDP, 16 USBDM, 17 3V3OUT (out), 18 GND18 (power), 19 RESET, 20 VCC (power), 21 GND21 (power), 22 RXLED, 23 TXLED, 25 AGND (power), 26 TEST, 27 OSCI, 28 OSCO (out)

## FT232RQ
designator ?, comment USB to USART. Non-stock item, unproven FP for this part.
footprint QFN-32
pins: 1 VCCIO (power), 2 RXD, 3 RI, 4 GND (power), 6 DSR, 7 DCD, 8 CTS, 9 SLEEP, 10 TXDEN, 11 PWREN, 14 USBDP, 15 USBDM, 16 3V3OUT (out), 17 GND (power), 18 RESET, 19 VCC (power), 20 GND (power), 21 RXLED, 22 TXLED, 24 AGND (power), 26 TEST, 27 OSCI, 28 OSCO (out), 30 TXD (out), 31 DTR (out), 32 RTS (out)

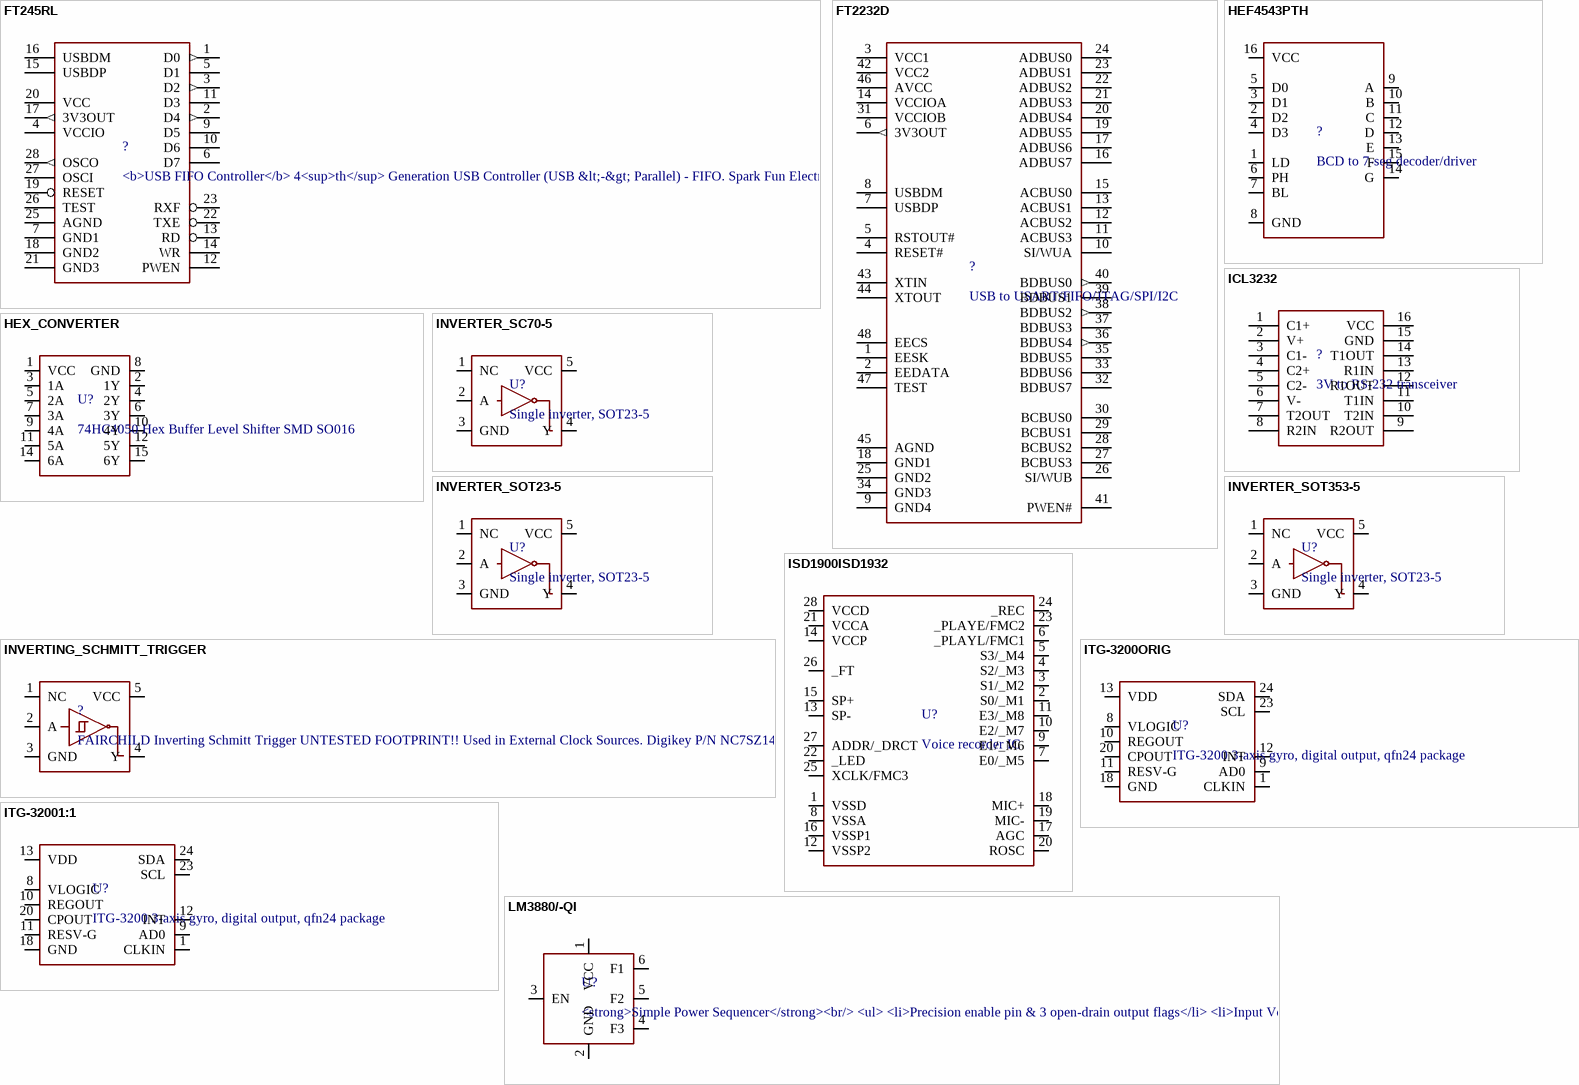
[diagram p11: symbols FT245RL to LM3880/-QI]

## FT245RL
designator ?, comment <b>USB FIFO Controller</b> / 4<sup>th</sup> Generation USB Controller (USB &lt;-&gt; Parallel) - FIFO. Spark Fun Electronics SKU : COM-00787
footprint SSOP28DB
pins: 1 D0 (out), 2 D4 (out), 3 D2 (out), 4 VCCIO (power), 5 D1, 6 D7, 7 GND1 (power), 9 D5, 10 D6, 11 D3, 12 PWEN, 13 RD, 14 WR, 15 USBDP, 16 USBDM, 17 3V3OUT (out), 18 GND2 (power), 19 RESET, 20 VCC (power), 21 GND3 (power), 22 TXE, 23 RXF, 25 AGND (power), 26 TEST, 27 OSCI, 28 OSCO (out)

## FT2232D
designator ?, comment USB to USART/FIFO/JTAG/SPI/I2C
footprint LQFP-48
pins: 1 EESK, 2 EEDATA, 3 VCC1 (power), 4 RESET#, 5 RSTOUT#, 6 3V3OUT (out), 7 USBDP, 8 USBDM, 9 GND4, 10 SI/WUA, 11 ACBUS3, 12 ACBUS2, 13 ACBUS1, 14 VCCIOA (power), 15 ACBUS0, 16 ADBUS7, 17 ADBUS6, 18 GND1 (power), 19 ADBUS5, 20 ADBUS4, 21 ADBUS3, 22 ADBUS2, 23 ADBUS1, 24 ADBUS0, 25 GND2 (power), 26 SI/WUB, 27 BCBUS3, 28 BCBUS2, 29 BCBUS1, 30 BCBUS0, 31 VCCIOB, 32 BDBUS7, 33 BDBUS6, 34 GND3 (power), 35 BDBUS5, 36 BDBUS4 (out), 37 BDBUS3, 38 BDBUS2 (out), 39 BDBUS1, 40 BDBUS0 (out), 41 PWEN#, 42 VCC2 (power), 43 XTIN, 44 XTOUT, 45 AGND (power), 46 AVCC, 47 TEST, 48 EECS

## HEF4543PTH
designator ?, comment BCD to 7-seg decoder/driver
footprint DIL16
pins: 1 LD, 2 D2, 3 D1, 4 D3, 5 D0, 6 PH, 7 BL, 8 GND, 9 A, 10 B, 11 C, 12 D, 13 E, 14 G, 15 F, 16 VCC

## HEX_CONVERTER
designator U?, comment 74HC4050 Hex Buffer Level Shifter SMD SO016
PROD_ID: IC-09604
footprint SO016
pins: 1 VCC, 2 1Y, 3 1A, 4 2Y, 5 2A, 6 3Y, 7 3A, 8 GND, 9 4A, 10 4Y, 11 5A, 12 5Y, 14 6A, 15 6Y

## ICL3232
designator ?, comment 3V to RS-232 transceiver
footprint DIL16
pins: 1 C1+, 2 V+, 3 C1-, 4 C2+, 5 C2-, 6 V-, 7 T2OUT, 8 R2IN, 9 R2OUT, 10 T2IN, 11 T1IN, 12 R1OUT, 13 R1IN, 14 T1OUT, 15 GND, 16 VCC

## INVERTER_SC70-5
designator U?, comment Single inverter, SOT23-5
PROD_ID: 8803
footprint SC70
pins: 1 NC, 2 A, 3 GND, 4 Y, 5 VCC

## INVERTER_SOT23-5
designator U?, comment Single inverter, SOT23-5
NOTE: RETIRED; PROD_ID: 8211
footprint SOT23-5
pins: 1 NC, 2 A, 3 GND, 4 Y, 5 VCC

## INVERTER_SOT353-5
designator U?, comment Single inverter, SOT23-5
PROD_ID: IC-10843
footprint SOT353
pins: 1 NC, 2 A, 3 GND, 4 Y, 5 VCC

## INVERTING_SCHMITT_TRIGGER
designator ?, comment FAIRCHILD Inverting Schmitt Trigger / UNTESTED FOOTPRINT!! / Used in External Clock Sources. / Digikey P/N NC7SZ14M5XCT-ND
footprint TSSOP5
pins: 1 NC, 2 A, 3 GND, 4 Y, 5 VCC

## ISD1900ISD1932
designator U?, comment Voice recorder IC
footprint SO-28W
pins: 1 VSSD, 2 S0/_M1, 3 S1/_M2, 4 S2/_M3, 5 S3/_M4, 6 _PLAYL/FMC1, 7 E0/_M5, 8 VSSA, 9 E1/_M6, 10 E2/_M7, 11 E3/_M8, 12 VSSP2, 13 SP-, 14 VCCP, 15 SP+, 16 VSSP1, 17 AGC, 18 MIC+, 19 MIC-, 20 ROSC, 21 VCCA, 22 _LED, 23 _PLAYE/FMC2, 24 _REC, 25 XCLK/FMC3, 26 _FT, 27 ADDR/_DRCT, 28 VCCD

## ITG-3200ORIG
designator U?, comment ITG-3200 3-axis gyro, digital output, qfn24 package
footprint QFN-24
pins: 1 CLKIN, 8 VLOGIC, 9 AD0, 10 REGOUT, 11 RESV-G, 12 INT, 13 VDD, 18 GND, 20 CPOUT, 23 SCL, 24 SDA

## ITG-32001:1
designator U?, comment ITG-3200 3-axis gyro, digital output, qfn24 package
footprint QFN-24_ITG3200_1:1
pins: 1 CLKIN, 8 VLOGIC, 9 AD0, 10 REGOUT, 11 RESV-G, 12 INT, 13 VDD, 18 GND, 20 CPOUT, 23 SCL, 24 SDA

## LM3880/-QI
designator U?, comment <strong>Simple Power Sequencer</strong><br/> / <ul> / <li>Precision enable pin & 3 open-drain output flags</li> / <li>Input Voltage Range of 2.7 V to 5.5 V</li> / <li>Power-Up and Power-Down Control</li> / <li>LM3880MF-1XY (Timing Designator) / <table> / <tr><td>AF</td><td>16ms</td></tr> / <tr><td>AE</td><td>2ms</td></tr> / <tr><td>AA</td><td>10ms</td></tr> / <tr><td>AB</td><td>30ms</td></tr> / <tr><td>AC</td><td>60ms</td></tr> / <tr><td>AD</td><td>120ms</td></tr> / </table></li> / <li>The timing sequence of the LM3880 is controlled entirely by the enable (EN) pin. Upon power up, all the flags are held low until this precision enable is pulled high / </li> / </ul>
PROD_ID: PROTOTYPE
footprint SOT23-6
pins: 1 VCC, 2 GND, 3 EN, 4 F3, 5 F2, 6 F1

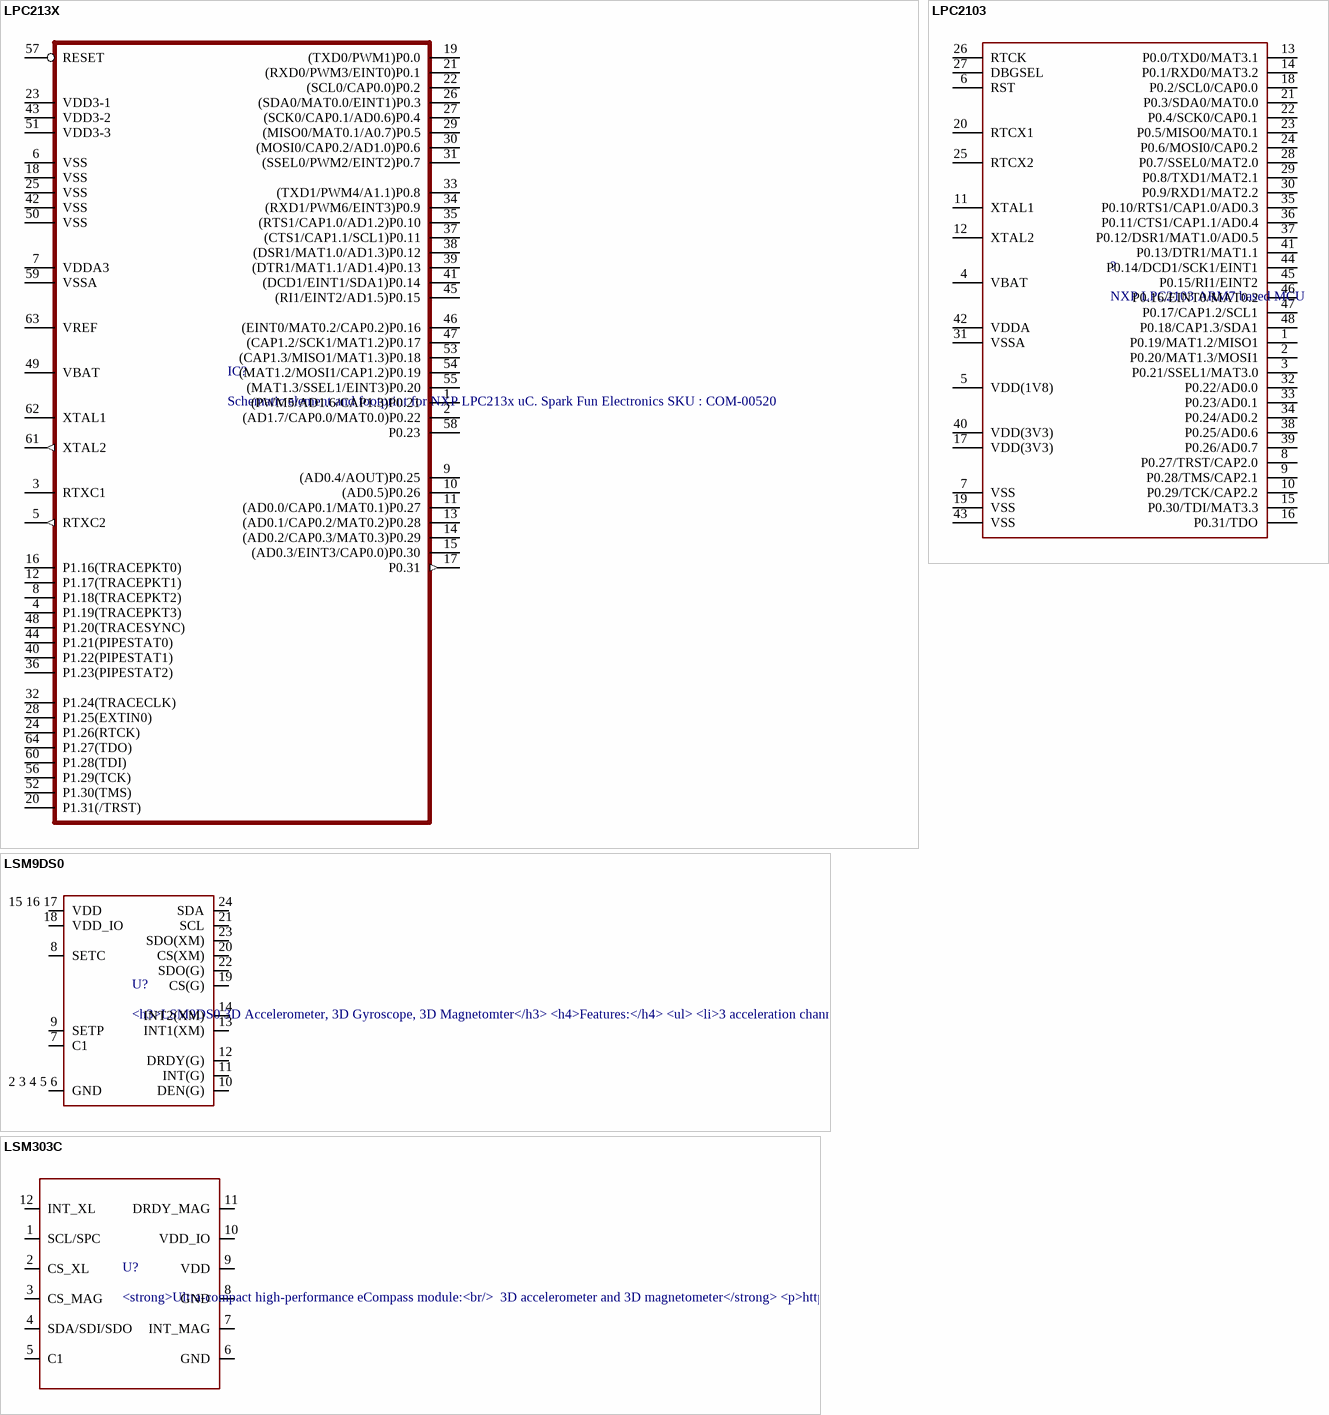
[diagram p12: symbols LPC213X to LSM303C]

## LPC213X
designator IC?, comment Schematic element and footprint for NXP LPC213x uC. Spark Fun Electronics SKU : COM-00520
footprint SQFP-S-10X10-64
pins: 1 (PWM5/AD1.6/CAP1.3)P0.21, 2 (AD1.7/CAP0.0/MAT0.0)P0.22, 3 RTXC1, 4 P1.19(TRACEPKT3), 5 RTXC2 (out), 6 VSS (power), 7 VDDA3 (power), 8 P1.18(TRACEPKT2), 9 (AD0.4/AOUT)P0.25, 10 (AD0.5)P0.26, 11 (AD0.0/CAP0.1/MAT0.1)P0.27, 12 P1.17(TRACEPKT1), 13 (AD0.1/CAP0.2/MAT0.2)P0.28, 14 (AD0.2/CAP0.3/MAT0.3)P0.29, 15 (AD0.3/EINT3/CAP0.0)P0.30, 16 P1.16(TRACEPKT0), 17 P0.31 (out), 18 VSS (power), 19 (TXD0/PWM1)P0.0, 20 P1.31(/TRST), 21 (RXD0/PWM3/EINT0)P0.1, 22 (SCL0/CAP0.0)P0.2, 23 VDD3-1 (power), 24 P1.26(RTCK), 25 VSS (power), 26 (SDA0/MAT0.0/EINT1)P0.3, 27 (SCK0/CAP0.1/AD0.6)P0.4, 28 P1.25(EXTIN0), 29 (MISO0/MAT0.1/A0.7)P0.5, 30 (MOSI0/CAP0.2/AD1.0)P0.6, 31 (SSEL0/PWM2/EINT2)P0.7, 32 P1.24(TRACECLK), 33 (TXD1/PWM4/A1.1)P0.8, 34 (RXD1/PWM6/EINT3)P0.9, 35 (RTS1/CAP1.0/AD1.2)P0.10, 36 P1.23(PIPESTAT2), 37 (CTS1/CAP1.1/SCL1)P0.11, 38 (DSR1/MAT1.0/AD1.3)P0.12, 39 (DTR1/MAT1.1/AD1.4)P0.13, 40 P1.22(PIPESTAT1), 41 (DCD1/EINT1/SDA1)P0.14, 42 VSS (power), 43 VDD3-2 (power), 44 P1.21(PIPESTAT0), 45 (RI1/EINT2/AD1.5)P0.15, 46 (EINT0/MAT0.2/CAP0.2)P0.16, 47 (CAP1.2/SCK1/MAT1.2)P0.17, 48 P1.20(TRACESYNC), 49 VBAT (power), 50 VSS (power), 51 VDD3-3 (power), 52 P1.30(TMS), 53 (CAP1.3/MISO1/MAT1.3)P0.18, 54 (MAT1.2/MOSI1/CAP1.2)P0.19, 55 (MAT1.3/SSEL1/EINT3)P0.20, 56 P1.29(TCK), 57 RESET, 58 P0.23, 59 VSSA (power), 60 P1.28(TDI), 61 XTAL2 (out), 62 XTAL1, 63 VREF, 64 P1.27(TDO)

## LPC2103
designator ?, comment NXP LPC2103 ARM7 based MCU
footprint LQFP-48
pins: 1 P0.19/MAT1.2/MISO1, 2 P0.20/MAT1.3/MOSI1, 3 P0.21/SSEL1/MAT3.0, 4 VBAT, 5 VDD(1V8), 6 RST, 7 VSS, 8 P0.27/TRST/CAP2.0, 9 P0.28/TMS/CAP2.1, 10 P0.29/TCK/CAP2.2, 11 XTAL1, 12 XTAL2, 13 P0.0/TXD0/MAT3.1, 14 P0.1/RXD0/MAT3.2, 15 P0.30/TDI/MAT3.3, 16 P0.31/TDO, 17 VDD(3V3), 18 P0.2/SCL0/CAP0.0, 19 VSS, 20 RTCX1, 21 P0.3/SDA0/MAT0.0, 22 P0.4/SCK0/CAP0.1, 23 P0.5/MISO0/MAT0.1, 24 P0.6/MOSI0/CAP0.2, 25 RTCX2, 26 RTCK, 27 DBGSEL, 28 P0.7/SSEL0/MAT2.0, 29 P0.8/TXD1/MAT2.1, 30 P0.9/RXD1/MAT2.2, 31 VSSA, 32 P0.22/AD0.0, 33 P0.23/AD0.1, 34 P0.24/AD0.2, 35 P0.10/RTS1/CAP1.0/AD0.3, 36 P0.11/CTS1/CAP1.1/AD0.4, 37 P0.12/DSR1/MAT1.0/AD0.5, 38 P0.25/AD0.6, 39 P0.26/AD0.7, 40 VDD(3V3), 41 P0.13/DTR1/MAT1.1, 42 VDDA, 43 VSS, 44 P0.14/DCD1/SCK1/EINT1, 45 P0.15/RI1/EINT2, 46 P0.16/EINT0/MAT0.2, 47 P0.17/CAP1.2/SCL1, 48 P0.18/CAP1.3/SDA1

## LSM9DS0
designator U?, comment <h3>LSM9DS0 3D Accelerometer, 3D Gyroscope, 3D Magnetomter</h3> / <h4>Features:</h4> / <ul> / <li>3 acceleration channels, 3 angular rate</li> / channels, 3 magnetic field channels</li> / <li>±2/±4/±6/±8/±16 g linear acceleration full scale</li> / <li>±2/±4/±8/±12 gauss magnetic full scale</li> / <li> ±245/±500/±2000 dps angular rate full scale</li> / <li> 16-bit data output</li> / <li> SPI / I2C serial interfaces</li> / <li> Analog supply voltage 2.4 V to 3.6 V</li> / <li> Power-down mode / low-power mode</li> / <li> Programmable interrupt generators</li> / <li> Embedded self-test</li> / <li> Embedded temperature sensor</li> / <li> Embedded FIFO</li> / <li> Position and motion detection functions</li> / <li> Click/double-click recognition</li>
footprint LGA-24
pins: 2 3 4 5 6 GND, 7 C1, 8 SETC, 9 SETP, 10 DEN(G), 11 INT(G), 12 DRDY(G), 13 INT1(XM), 14 INT2(XM), 15 16 17 VDD, 18 VDD_IO, 19 CS(G), 20 CS(XM), 21 SCL, 22 SDO(G), 23 SDO(XM), 24 SDA

## LSM303C
designator U?, comment <strong>Ultra-compact high-performance eCompass module:<br/> / 3D accelerometer and 3D magnetometer</strong> / <p>http://www.st.com/st-web-ui/static/active/en/resource/technical/document/datasheet/DM00089896.pdf</p>
footprint LGA-12
pins: 1 SCL/SPC, 2 CS_XL, 3 CS_MAG, 4 SDA/SDI/SDO, 5 C1, 6 GND, 7 INT_MAG, 8 GND, 9 VDD, 10 VDD_IO, 11 DRDY_MAG, 12 INT_XL

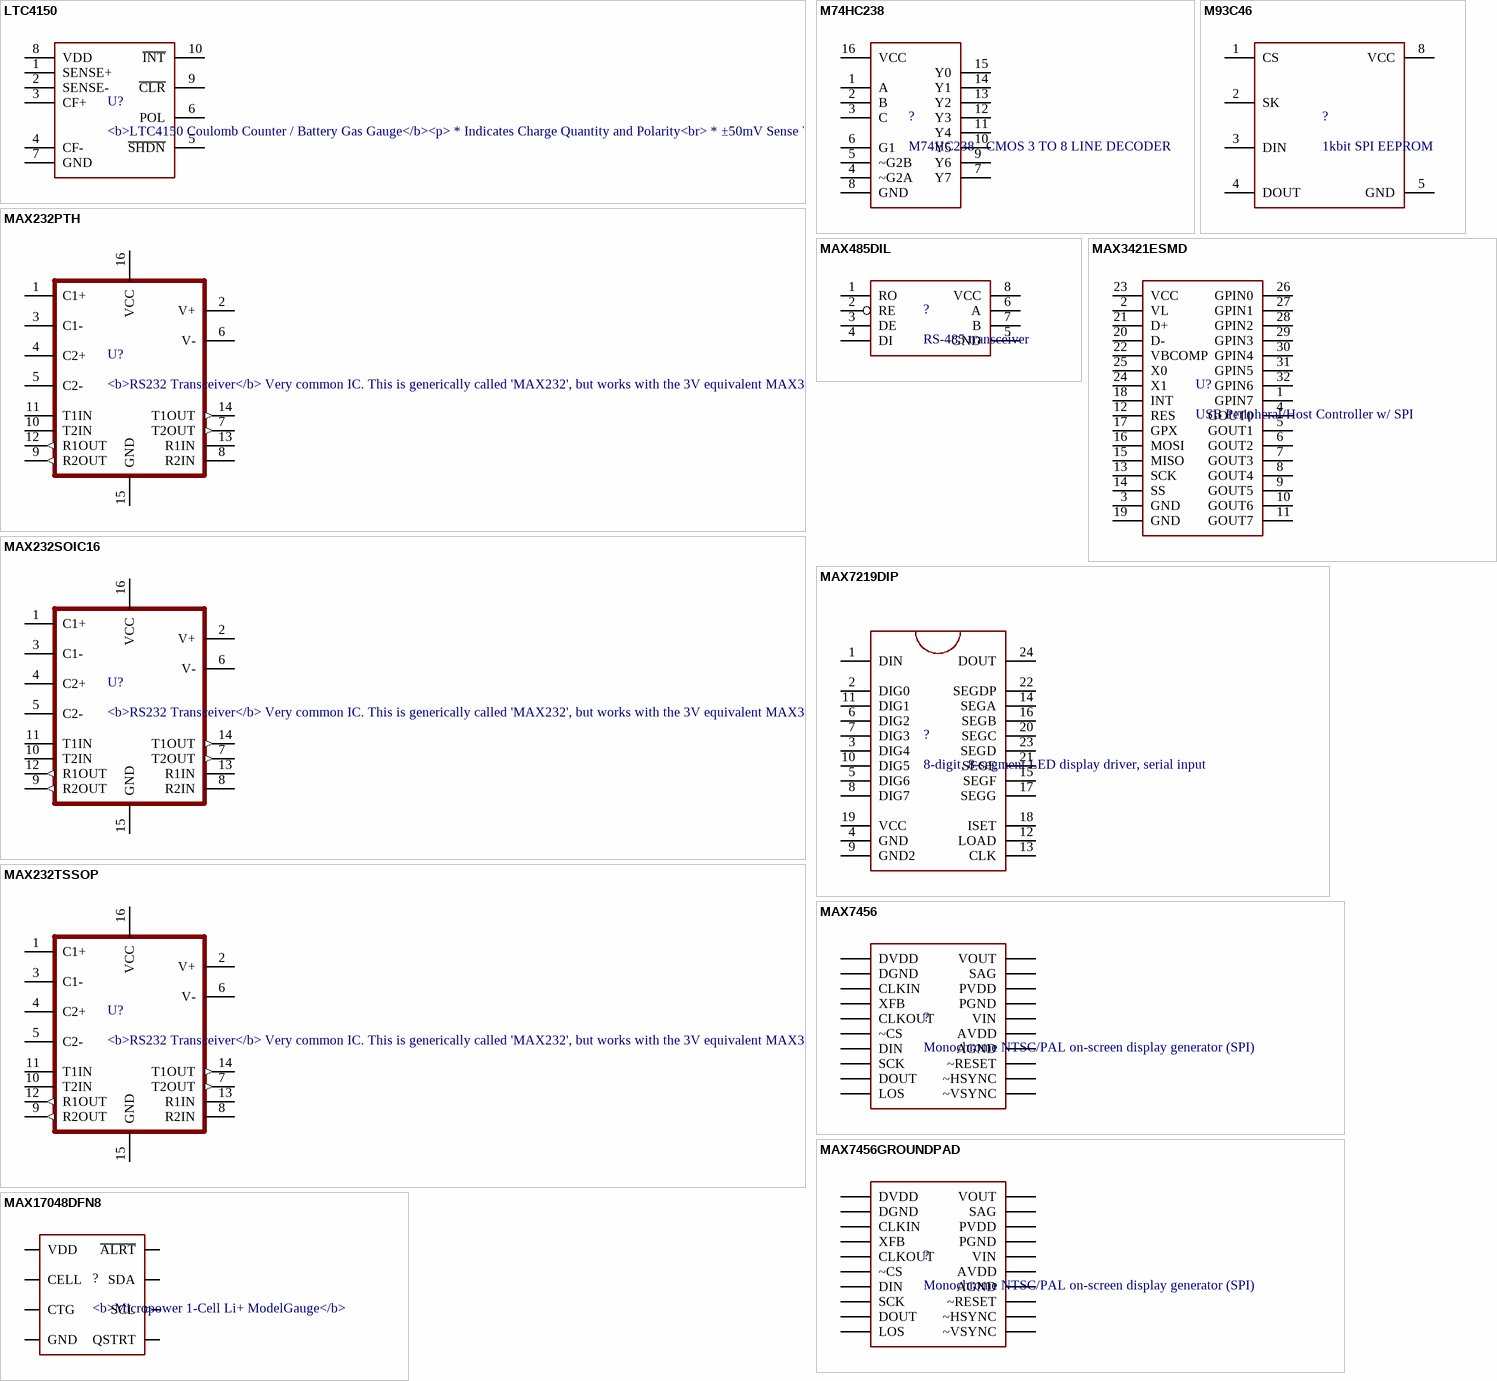
[diagram p13: symbols LTC4150 to MAX17048DFN8]

## LTC4150
designator U?, comment <b>LTC4150 Coulomb Counter / Battery Gas Gauge</b><p> / * Indicates Charge Quantity and Polarity<br> / * ±50mV Sense Voltage Range<br> / * Precision Timer Capacitor or Crystal Not Required<br> / * 2.7V to 8.5V Operation<br> / * High Side Sense<br> / * 32.55Hz/V Charge Count Frequency<br> / * 1.5μA Shutdown Current<br> / * 10-Pin MSOP Package<p> / Manufacturer's page: <a href="http://www.linear.com/product/LTC4150">http://www.linear.com/product/LTC4150</a>
footprint MSOP10
pins: 1 SENSE+, 2 SENSE-, 3 CF+, 4 CF-, 5 ~{SHDN}, 6 POL, 7 GND (power), 8 VDD (power), 9 ~{CLR}, 10 ~{INT}

## M74HC238
designator ?, comment M74HC238 - CMOS 3 TO 8 LINE DECODER
footprint DIL16
pins: 1 A, 2 B, 3 C, 4 ~G2A, 5 ~G2B, 6 G1, 7 Y7, 8 GND, 9 Y6, 10 Y5, 11 Y4, 12 Y3, 13 Y2, 14 Y1, 15 Y0, 16 VCC

## M93C46
designator ?, comment 1kbit SPI EEPROM
footprint SO08
pins: 1 CS, 2 SK, 3 DIN, 4 DOUT, 5 GND, 8 VCC

## MAX232PTH
designator U?, comment <b>RS232 Transceiver</b> / Very common IC. This is generically called 'MAX232', but works with the 3V equivalent MAX3232 generic ICs. Field tested and mother approved. Spark Fun Electronics SKU : COM-00316 (DIP) and COM-00589 (SMD)
footprint DIL16
pins: 1 C1+, 2 V+, 3 C1-, 4 C2+, 5 C2-, 6 V-, 7 T2OUT (out), 8 R2IN, 9 R2OUT (out), 10 T2IN, 11 T1IN, 12 R1OUT (out), 13 R1IN, 14 T1OUT (out), 15 GND, 16 VCC

## MAX232SOIC16
designator U?, comment <b>RS232 Transceiver</b> / Very common IC. This is generically called 'MAX232', but works with the 3V equivalent MAX3232 generic ICs. Field tested and mother approved. Spark Fun Electronics SKU : COM-00316 (DIP) and COM-00589 (SMD)
PROD_ID: IC-08171
footprint SO016
pins: 1 C1+, 2 V+, 3 C1-, 4 C2+, 5 C2-, 6 V-, 7 T2OUT (out), 8 R2IN, 9 R2OUT (out), 10 T2IN, 11 T1IN, 12 R1OUT (out), 13 R1IN, 14 T1OUT (out), 15 GND, 16 VCC